# Altium integrated library microbuilder.IntLib: 530 symbols (part 4 of 7)
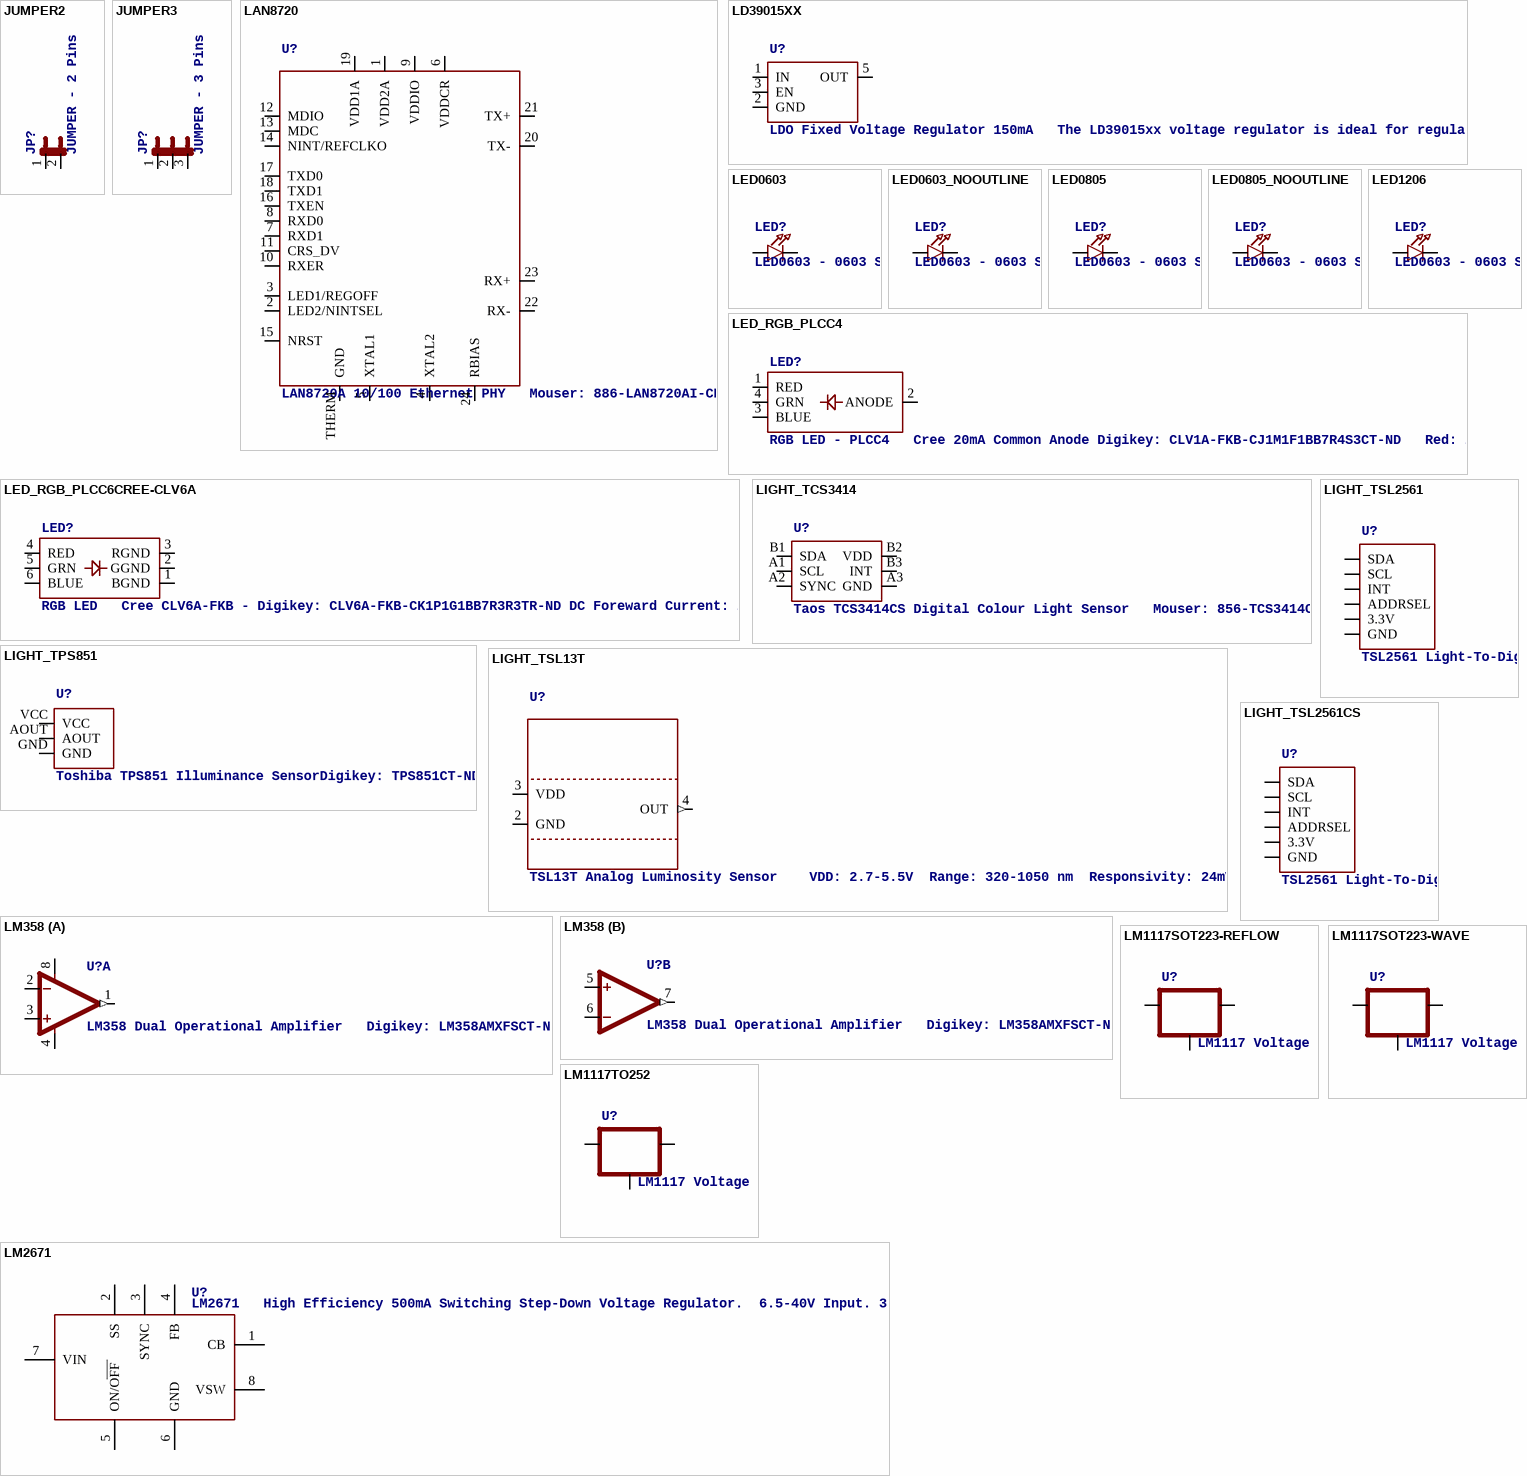
[diagram p55: symbols JUMPER2 to LM2671]

## LED0603_NOOUTLINE
designator LED?, comment LED0603 - 0603 Surface Mount Package    2mA: Green LED - Low Power (3.9mcd, 2ma, 1.7Vf) - Digikey: 475-2709-2-ND  Orange LED - Low Power (9.8mcd, 2ma, 1.8Vf) - Digikey: 475-1194-2-ND  Red LED - Low Power (5mcd, 2ma, 1.8Vf) - Digikey: 475-1195-2-ND  Yellow LED - Low Power (7mcd, 2ma, 1.8Vf) - Digikey: 475-1196-2-ND       5mA: Blue LED - Low Power (17mcd, 5ma, 2.9Vf) - Digikey: LNJ937W8CRACT-ND    0805 - 0805 Surface Mount Package    2mA: Red LED (8.8mcd, 2mA, 1.8Vf, Clear) - Low Power [Digikey: 475-2510-1-ND]  Green LED (5mcd, 2mA, 1.8Vf, Clear) - Low Power [Digikey: 475-2730-1-ND]  Yellow LED (11.3mcd, 2mA, 1.8Vf, Clear) - Low Power [Digikey: 475-2555-1-ND]       20mA: Red LED (104mcd, 20mA, Diffused) - LS R976 [Digikey: 475-1278-6-ND]  Red LED (12mcd, 20mA, 2.0Vf, Clear) - APT2012EC [Digikey: 754-1128-1-ND]  Green LED (15mcd, 20mA, 2.2Vf, Clear) - APT2012GC [Digikey: 754-1131-1-ND]  Orange LED (160mcd, 20mA, 2.1Vf, Clear) - APT2012SECK [Digikey: 754-1130-1-ND]     1206 - 1206 Surface Mount Package  Green LED (26mcd, 20mA, Diffused) - LG N971  [Digikey: 475-1407-6-ND]  Red LED (15mcd, 20mA, Diffused) - LH N974 [Digikey: 475-1416-6-ND]
footprint CHIPLED_0603_NOOUTLINE
pins: A, C

## LED0805
designator LED?, comment LED0603 - 0603 Surface Mount Package    2mA: Green LED - Low Power (3.9mcd, 2ma, 1.7Vf) - Digikey: 475-2709-2-ND  Orange LED - Low Power (9.8mcd, 2ma, 1.8Vf) - Digikey: 475-1194-2-ND  Red LED - Low Power (5mcd, 2ma, 1.8Vf) - Digikey: 475-1195-2-ND  Yellow LED - Low Power (7mcd, 2ma, 1.8Vf) - Digikey: 475-1196-2-ND       5mA: Blue LED - Low Power (17mcd, 5ma, 2.9Vf) - Digikey: LNJ937W8CRACT-ND    0805 - 0805 Surface Mount Package    2mA: Red LED (8.8mcd, 2mA, 1.8Vf, Clear) - Low Power [Digikey: 475-2510-1-ND]  Green LED (5mcd, 2mA, 1.8Vf, Clear) - Low Power [Digikey: 475-2730-1-ND]  Yellow LED (11.3mcd, 2mA, 1.8Vf, Clear) - Low Power [Digikey: 475-2555-1-ND]       20mA: Red LED (104mcd, 20mA, Diffused) - LS R976 [Digikey: 475-1278-6-ND]  Red LED (12mcd, 20mA, 2.0Vf, Clear) - APT2012EC [Digikey: 754-1128-1-ND]  Green LED (15mcd, 20mA, 2.2Vf, Clear) - APT2012GC [Digikey: 754-1131-1-ND]  Orange LED (160mcd, 20mA, 2.1Vf, Clear) - APT2012SECK [Digikey: 754-1130-1-ND]     1206 - 1206 Surface Mount Package  Green LED (26mcd, 20mA, Diffused) - LG N971  [Digikey: 475-1407-6-ND]  Red LED (15mcd, 20mA, Diffused) - LH N974 [Digikey: 475-1416-6-ND]
footprint CHIPLED_0805
pins: A, C

## LED0805_NOOUTLINE
designator LED?, comment LED0603 - 0603 Surface Mount Package    2mA: Green LED - Low Power (3.9mcd, 2ma, 1.7Vf) - Digikey: 475-2709-2-ND  Orange LED - Low Power (9.8mcd, 2ma, 1.8Vf) - Digikey: 475-1194-2-ND  Red LED - Low Power (5mcd, 2ma, 1.8Vf) - Digikey: 475-1195-2-ND  Yellow LED - Low Power (7mcd, 2ma, 1.8Vf) - Digikey: 475-1196-2-ND       5mA: Blue LED - Low Power (17mcd, 5ma, 2.9Vf) - Digikey: LNJ937W8CRACT-ND    0805 - 0805 Surface Mount Package    2mA: Red LED (8.8mcd, 2mA, 1.8Vf, Clear) - Low Power [Digikey: 475-2510-1-ND]  Green LED (5mcd, 2mA, 1.8Vf, Clear) - Low Power [Digikey: 475-2730-1-ND]  Yellow LED (11.3mcd, 2mA, 1.8Vf, Clear) - Low Power [Digikey: 475-2555-1-ND]       20mA: Red LED (104mcd, 20mA, Diffused) - LS R976 [Digikey: 475-1278-6-ND]  Red LED (12mcd, 20mA, 2.0Vf, Clear) - APT2012EC [Digikey: 754-1128-1-ND]  Green LED (15mcd, 20mA, 2.2Vf, Clear) - APT2012GC [Digikey: 754-1131-1-ND]  Orange LED (160mcd, 20mA, 2.1Vf, Clear) - APT2012SECK [Digikey: 754-1130-1-ND]     1206 - 1206 Surface Mount Package  Green LED (26mcd, 20mA, Diffused) - LG N971  [Digikey: 475-1407-6-ND]  Red LED (15mcd, 20mA, Diffused) - LH N974 [Digikey: 475-1416-6-ND]
footprint CHIPLED_0805_NOOUTLINE
pins: A, C

## LED1206
designator LED?, comment LED0603 - 0603 Surface Mount Package    2mA: Green LED - Low Power (3.9mcd, 2ma, 1.7Vf) - Digikey: 475-2709-2-ND  Orange LED - Low Power (9.8mcd, 2ma, 1.8Vf) - Digikey: 475-1194-2-ND  Red LED - Low Power (5mcd, 2ma, 1.8Vf) - Digikey: 475-1195-2-ND  Yellow LED - Low Power (7mcd, 2ma, 1.8Vf) - Digikey: 475-1196-2-ND       5mA: Blue LED - Low Power (17mcd, 5ma, 2.9Vf) - Digikey: LNJ937W8CRACT-ND    0805 - 0805 Surface Mount Package    2mA: Red LED (8.8mcd, 2mA, 1.8Vf, Clear) - Low Power [Digikey: 475-2510-1-ND]  Green LED (5mcd, 2mA, 1.8Vf, Clear) - Low Power [Digikey: 475-2730-1-ND]  Yellow LED (11.3mcd, 2mA, 1.8Vf, Clear) - Low Power [Digikey: 475-2555-1-ND]       20mA: Red LED (104mcd, 20mA, Diffused) - LS R976 [Digikey: 475-1278-6-ND]  Red LED (12mcd, 20mA, 2.0Vf, Clear) - APT2012EC [Digikey: 754-1128-1-ND]  Green LED (15mcd, 20mA, 2.2Vf, Clear) - APT2012GC [Digikey: 754-1131-1-ND]  Orange LED (160mcd, 20mA, 2.1Vf, Clear) - APT2012SECK [Digikey: 754-1130-1-ND]     1206 - 1206 Surface Mount Package  Green LED (26mcd, 20mA, Diffused) - LG N971  [Digikey: 475-1407-6-ND]  Red LED (15mcd, 20mA, Diffused) - LH N974 [Digikey: 475-1416-6-ND]
footprint CHIPLED_1206
pins: A, C

## LED_RGB_PLCC4
designator LED?, comment RGB LED - PLCC4   Cree 20mA Common Anode Digikey: CLV1A-FKB-CJ1M1F1BB7R4S3CT-ND   Red: 2.6V Vf, 550mcd Green: 3.2V Vf, 850mcd Blue: 3.2V Vf, 320mcd
footprint RGBLED_PLCC4
pins: 1 RED, 2 ANODE (power), 3 BLUE, 4 GRN

## LED_RGB_PLCC6CREE-CLV6A
designator LED?, comment RGB LED   Cree CLV6A-FKB - Digikey: CLV6A-FKB-CK1P1G1BB7R3R3TR-ND DC Foreward Current: 20mA  Foreward Voltage: R = 2.0, G = 3.2, B = 3.2  Viewing Angle: 120°
footprint RGBLED_PLCC6
pins: 1 BGND (power), 2 GGND (power), 3 RGND (power), 4 RED, 5 GRN, 6 BLUE

## LIGHT_TCS3414
designator U?, comment Taos TCS3414CS Digital Colour Light Sensor   Mouser: 856-TCS3414CS
footprint TCS3414_CS6
pins: A1 SCL, A2 SYNC, A3 GND, B1 SDA, B2 VDD, B3 INT

## LIGHT_TPS851
designator U?, comment Toshiba TPS851 Illuminance SensorDigikey: TPS851CT-ND
footprint TPS851
pins: AOUT, GND, VCC

## LIGHT_TSL13T
designator U?, comment TSL13T Analog Luminosity Sensor    VDD: 2.7-5.5V  Range: 320-1050 nm  Responsivity: 24mV/(µW/cm²)    Mouser: 856-TSL13T
footprint TSL13T
pins: 2 GND (power), 3 VDD (power), 4 OUT (out)

## LIGHT_TSL2561
designator U?, comment TSL2561 Light-To-Digital Sensor   Mouser Part Numbers:  CS (obsolete): 856-TSL2561CS  DFN (cheapest): 856-TSL2561FN
footprint TSL2561_FN
pins: ADR ADDRSEL, CLK SCL, DATA SDA, INT, VDD 3.3V, VSS GND

## LIGHT_TSL2561CS
designator U?, comment TSL2561 Light-To-Digital Sensor   Mouser Part Numbers:  CS (obsolete): 856-TSL2561CS  DFN (cheapest): 856-TSL2561FN
footprint TSL2561_CS6
pins: ADDR ADDRSEL, GND, INT, SCL, SDA, VDD 3.3V

## LM358
designator U?, comment LM358 Dual Operational Amplifier   Digikey: LM358AMXFSCT-ND
footprint SOIC8_150MIL
part A pins: 1 OUT (out), 2 -IN, 3 +IN, 4 V- (power), 8 V+ (power)
part B pins: 5 +IN, 6 -IN, 7 OUT (out)

## LM1117SOT223-REFLOW
designator U?, comment LM1117 Voltage Regulator    LM1117 Adjustable Voltage regulator [Digikey: LM1117IMP-ADJDKR-ND] LM1117 3.3V Voltage regulator [AP1117E33GDIDKR-ND] LM1117 5.0V Voltage regulator [AP1117E50GDIDKR-ND]    SOT223-REFLOW - SOT223 package for solder paste/reflow ovens SOT223-WAVE - SOT223 package for hand-soldering (larger pads)   Note: For the fixed-voltage regulators, simply set the ADJ pin to GND.
footprint SOT223-R
pins: 1 ADJ, 2 OUT, 3 IN

## LM1117SOT223-WAVE
designator U?, comment LM1117 Voltage Regulator    LM1117 Adjustable Voltage regulator [Digikey: LM1117IMP-ADJDKR-ND] LM1117 3.3V Voltage regulator [AP1117E33GDIDKR-ND] LM1117 5.0V Voltage regulator [AP1117E50GDIDKR-ND]    SOT223-REFLOW - SOT223 package for solder paste/reflow ovens SOT223-WAVE - SOT223 package for hand-soldering (larger pads)   Note: For the fixed-voltage regulators, simply set the ADJ pin to GND.
footprint SOT223-W
pins: 1 ADJ, 2 OUT, 3 IN

## LM1117TO252
designator U?, comment LM1117 Voltage Regulator    LM1117 Adjustable Voltage regulator [Digikey: LM1117IMP-ADJDKR-ND] LM1117 3.3V Voltage regulator [AP1117E33GDIDKR-ND] LM1117 5.0V Voltage regulator [AP1117E50GDIDKR-ND]    SOT223-REFLOW - SOT223 package for solder paste/reflow ovens SOT223-WAVE - SOT223 package for hand-soldering (larger pads)   Note: For the fixed-voltage regulators, simply set the ADJ pin to GND.
footprint TO252
pins: 1 ADJ, 2 IN, 3 OUT

## LM2671
designator U?, comment LM2671   High Efficiency 500mA Switching Step-Down Voltage Regulator.  6.5-40V Input. 3.3V SOIC-8: Digikey LM2671M-3.3-ND
footprint SOIC8_150MIL
pins: 1 CB, 2 SS, 3 SYNC, 4 FB, 5 ON/OFF, 6 GND, 7 VIN, 8 VSW

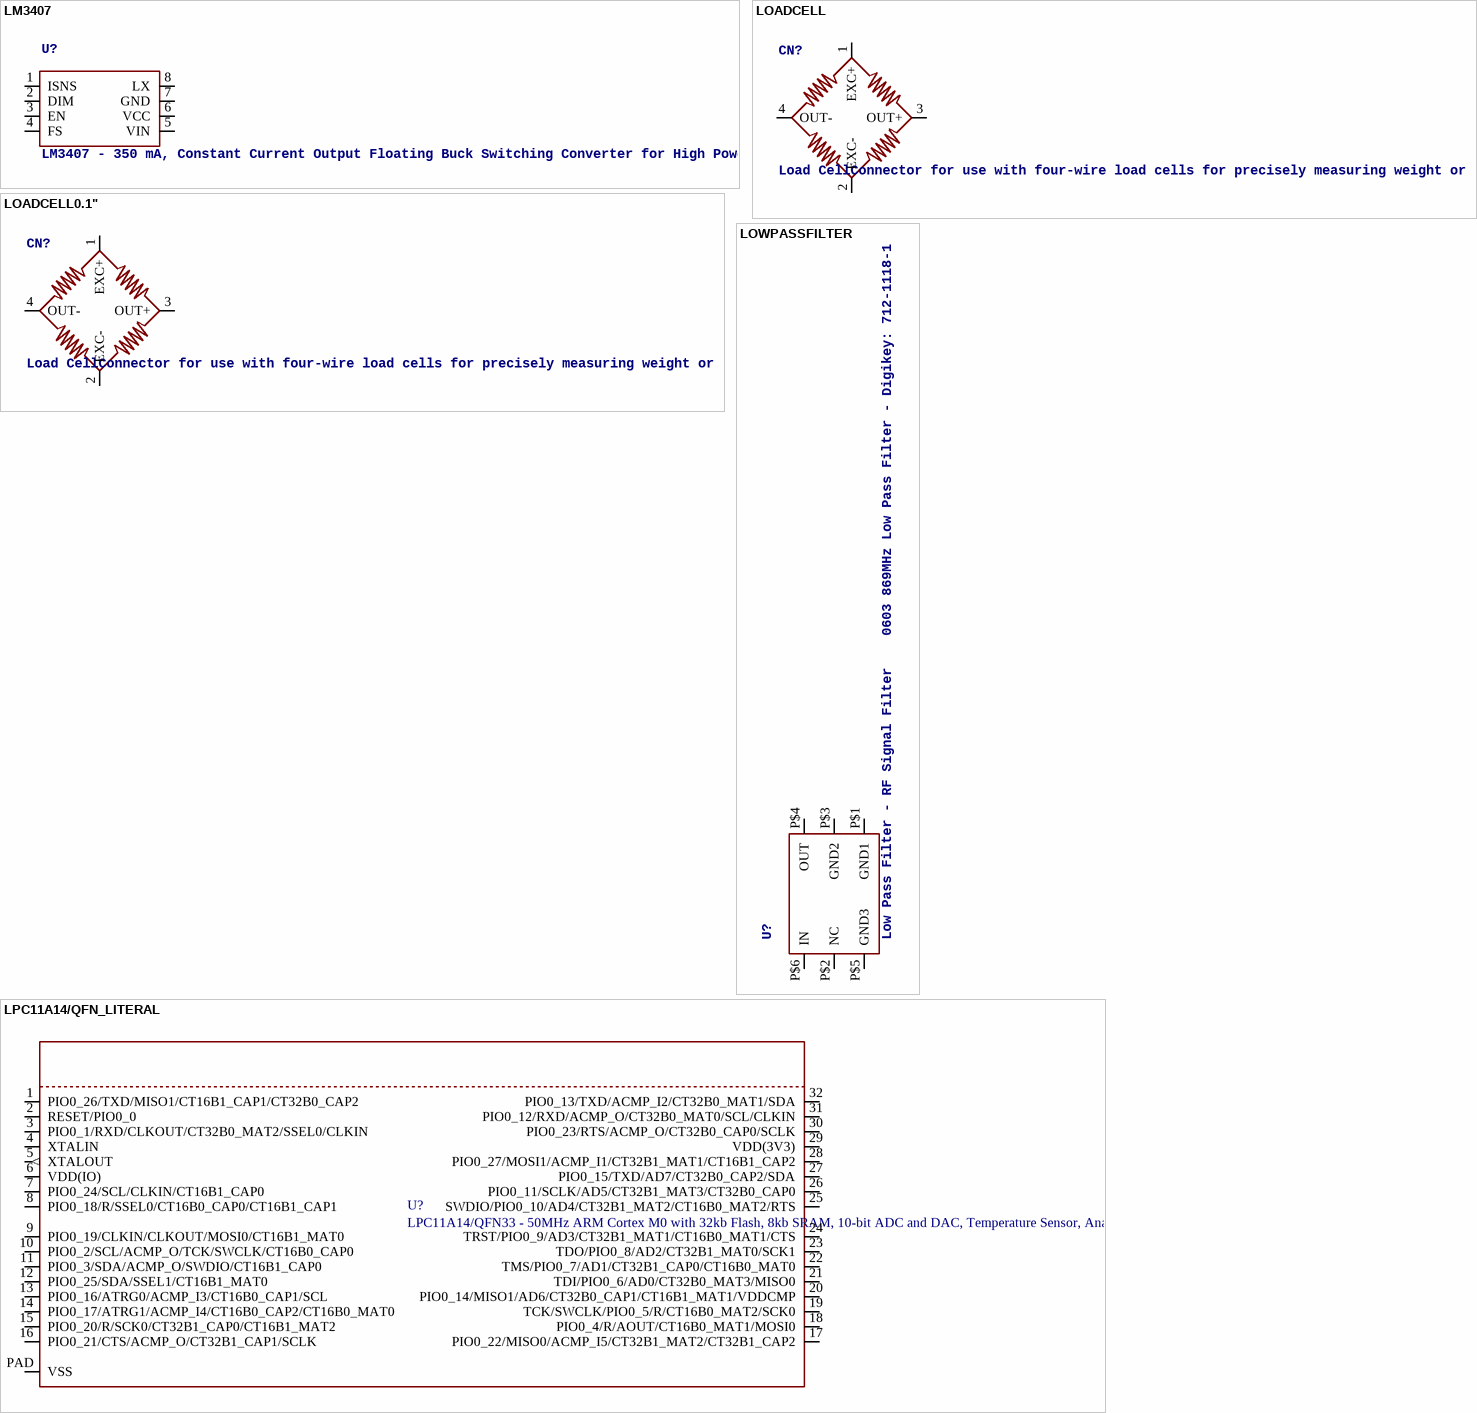
[diagram p27: symbols LM3407 to LPC11A14/QFN_LITERAL]

## LM3407
designator U?, comment LM3407 - 350 mA, Constant Current Output Floating Buck Switching Converter for High Power LEDs
footprint MSOP8_0.65MM
pins: 1 ISNS, 2 DIM, 3 EN, 4 FS, 5 VIN, 6 VCC, 7 GND, 8 LX

## LOADCELL
designator CN?, comment Load CellConnector for use with four-wire load cells for precisely measuring weight or pressure
footprint JSTPH4
pins: 1 EXC+, 2 EXC-, 3 OUT+, 4 OUT-

## LOADCELL0.1"
designator CN?, comment Load CellConnector for use with four-wire load cells for precisely measuring weight or pressure
footprint 1X04_OVAL
pins: 1 EXC+, 2 EXC-, 3 OUT+, 4 OUT-

## LOWPASSFILTER
designator U?, comment Low Pass Filter - RF Signal Filter    0603 869MHz Low Pass Filter - Digikey: 712-1118-1-ND
footprint LOWPASSFILTER0603
pins: P$1 GND1, P$2 NC, P$3 GND2, P$4 OUT, P$5 GND3, P$6 IN

## LPC11A14/QFN_LITERAL
designator U?, comment LPC11A14/QFN33 - 50MHz ARM Cortex M0 with 32kb Flash, 8kb SRAM, 10-bit ADC and DAC, Temperature Sensor, Analog Comparator, and 4kb EEPROM    Temp Range: -40°C - 85°C VDD: 2.6-3.6V
footprint HVQFN32
pins: 1 PIO0_26/TXD/MISO1/CT16B1_CAP1/CT32B0_CAP2, 2 RESET/PIO0_0, 3 PIO0_1/RXD/CLKOUT/CT32B0_MAT2/SSEL0/CLKIN, 4 XTALIN, 5 XTALOUT (out), 6 VDD(IO) (oe), 7 PIO0_24/SCL/CLKIN/CT16B1_CAP0, 8 PIO0_18/R/SSEL0/CT16B0_CAP0/CT16B1_CAP1, 9 PIO0_19/CLKIN/CLKOUT/MOSI0/CT16B1_MAT0, 10 PIO0_2/SCL/ACMP_O/TCK/SWCLK/CT16B0_CAP0, 11 PIO0_3/SDA/ACMP_O/SWDIO/CT16B1_CAP0, 12 PIO0_25/SDA/SSEL1/CT16B1_MAT0, 13 PIO0_16/ATRG0/ACMP_I3/CT16B0_CAP1/SCL, 14 PIO0_17/ATRG1/ACMP_I4/CT16B0_CAP2/CT16B0_MAT0, 15 PIO0_20/R/SCK0/CT32B1_CAP0/CT16B1_MAT2, 16 PIO0_21/CTS/ACMP_O/CT32B1_CAP1/SCLK, 17 PIO0_22/MISO0/ACMP_I5/CT32B1_MAT2/CT32B1_CAP2, 18 PIO0_4/R/AOUT/CT16B0_MAT1/MOSI0, 19 TCK/SWCLK/PIO0_5/R/CT16B0_MAT2/SCK0, 20 PIO0_14/MISO1/AD6/CT32B0_CAP1/CT16B1_MAT1/VDDCMP, 21 TDI/PIO0_6/AD0/CT32B0_MAT3/MISO0, 22 TMS/PIO0_7/AD1/CT32B1_CAP0/CT16B0_MAT0, 23 TDO/PIO0_8/AD2/CT32B1_MAT0/SCK1, 24 TRST/PIO0_9/AD3/CT32B1_MAT1/CT16B0_MAT1/CTS, 25 SWDIO/PIO0_10/AD4/CT32B1_MAT2/CT16B0_MAT2/RTS, 26 PIO0_11/SCLK/AD5/CT32B1_MAT3/CT32B0_CAP0, 27 PIO0_15/TXD/AD7/CT32B0_CAP2/SDA, 28 PIO0_27/MOSI1/ACMP_I1/CT32B1_MAT1/CT16B1_CAP2, 29 VDD(3V3) (oe), 30 PIO0_23/RTS/ACMP_O/CT32B0_CAP0/SCLK, 31 PIO0_12/RXD/ACMP_O/CT32B0_MAT0/SCL/CLKIN, 32 PIO0_13/TXD/ACMP_I2/CT32B0_MAT1/SDA, PAD VSS (oe)

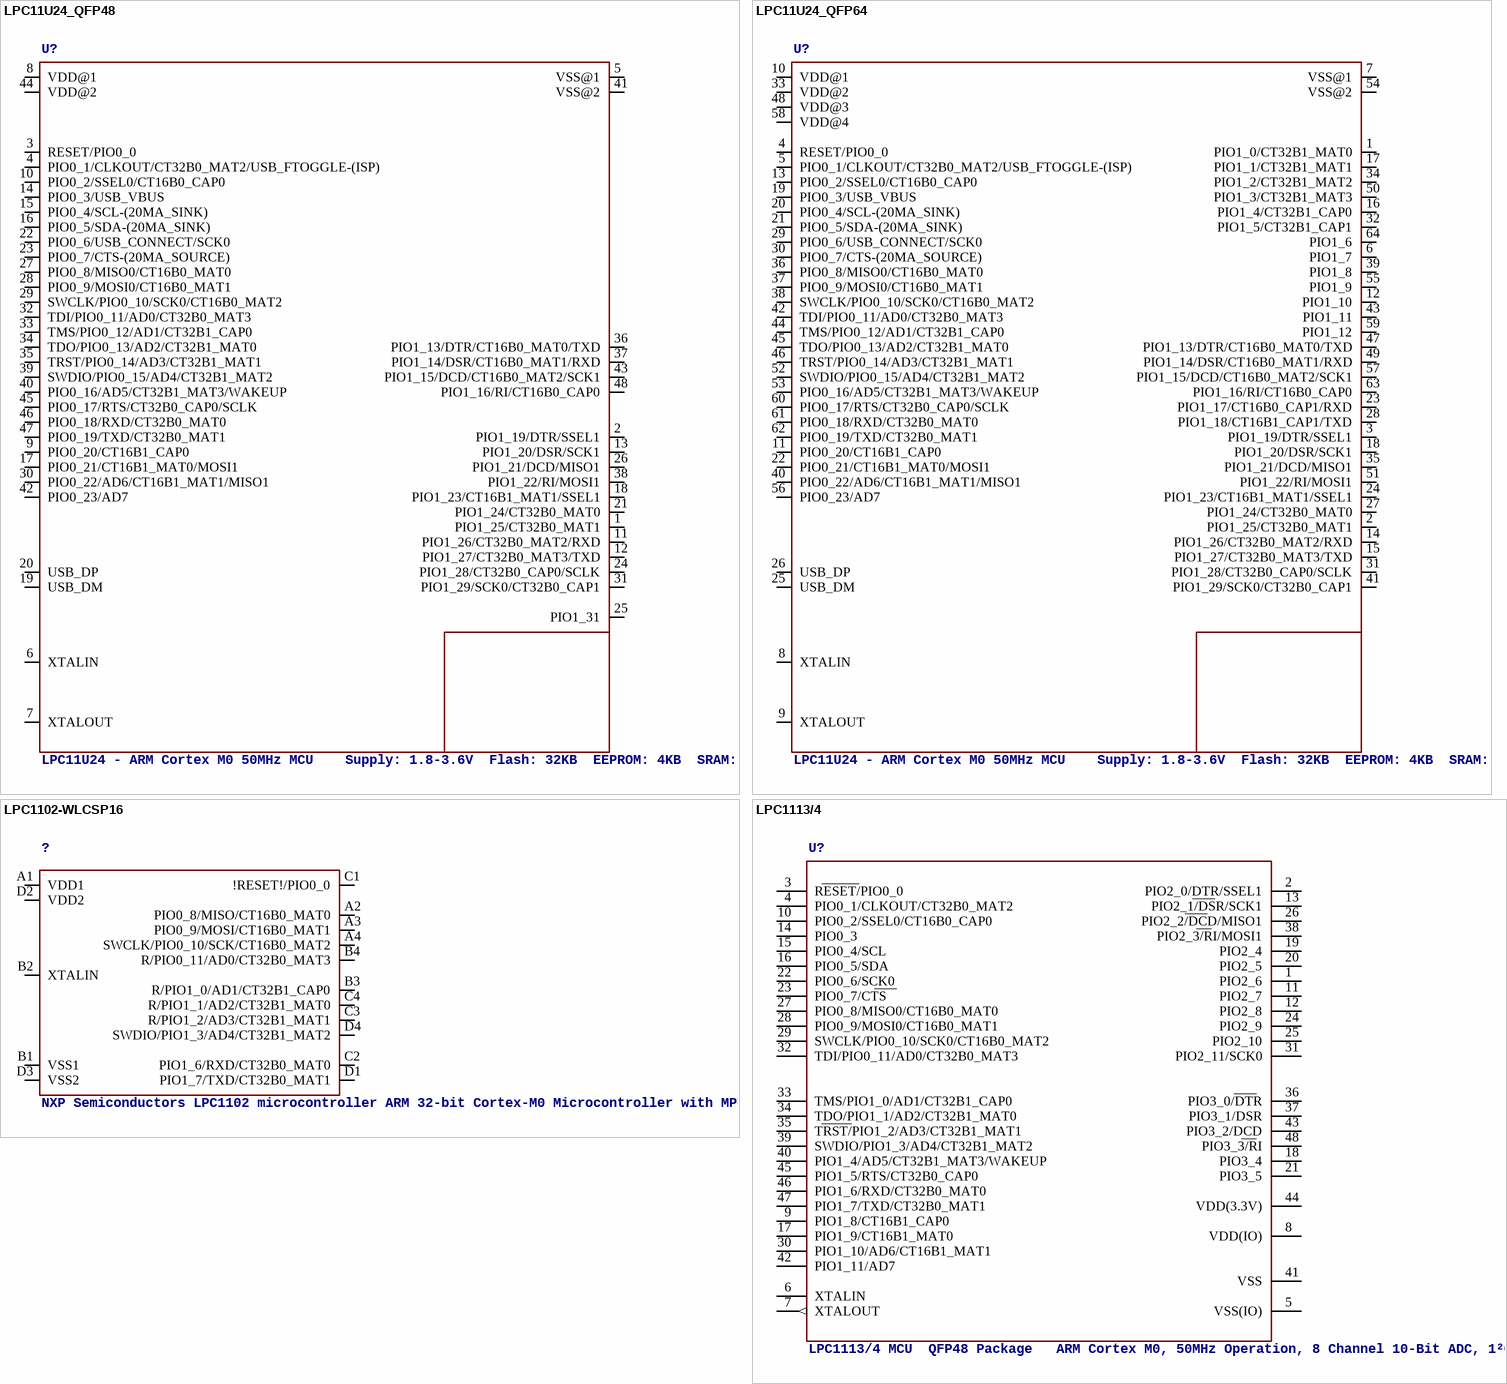
[diagram p28: symbols LPC11U24_QFP48 to LPC1113/4]

## LPC11U24_QFP48
designator U?, comment LPC11U24 - ARM Cortex M0 50MHz MCU    Supply: 1.8-3.6V  Flash: 32KB  EEPROM: 4KB  SRAM: 8KB + 2KB USB  Temp: -40°C - 85°C
footprint LQFP48
pins: 1 PIO1_25/CT32B0_MAT1, 2 PIO1_19/DTR/SSEL1, 3 RESET/PIO0_0, 4 PIO0_1/CLKOUT/CT32B0_MAT2/USB_FTOGGLE-(ISP), 5 VSS@1, 6 XTALIN, 7 XTALOUT, 8 VDD@1, 9 PIO0_20/CT16B1_CAP0, 10 PIO0_2/SSEL0/CT16B0_CAP0, 11 PIO1_26/CT32B0_MAT2/RXD, 12 PIO1_27/CT32B0_MAT3/TXD, 13 PIO1_20/DSR/SCK1, 14 PIO0_3/USB_VBUS, 15 PIO0_4/SCL-(20MA_SINK), 16 PIO0_5/SDA-(20MA_SINK), 17 PIO0_21/CT16B1_MAT0/MOSI1, 18 PIO1_23/CT16B1_MAT1/SSEL1, 19 USB_DM, 20 USB_DP, 21 PIO1_24/CT32B0_MAT0, 22 PIO0_6/USB_CONNECT/SCK0, 23 PIO0_7/CTS-(20MA_SOURCE), 24 PIO1_28/CT32B0_CAP0/SCLK, 25 PIO1_31, 26 PIO1_21/DCD/MISO1, 27 PIO0_8/MISO0/CT16B0_MAT0, 28 PIO0_9/MOSI0/CT16B0_MAT1, 29 SWCLK/PIO0_10/SCK0/CT16B0_MAT2, 30 PIO0_22/AD6/CT16B1_MAT1/MISO1, 31 PIO1_29/SCK0/CT32B0_CAP1, 32 TDI/PIO0_11/AD0/CT32B0_MAT3, 33 TMS/PIO0_12/AD1/CT32B1_CAP0, 34 TDO/PIO0_13/AD2/CT32B1_MAT0, 35 TRST/PIO0_14/AD3/CT32B1_MAT1, 36 PIO1_13/DTR/CT16B0_MAT0/TXD, 37 PIO1_14/DSR/CT16B0_MAT1/RXD, 38 PIO1_22/RI/MOSI1, 39 SWDIO/PIO0_15/AD4/CT32B1_MAT2, 40 PIO0_16/AD5/CT32B1_MAT3/WAKEUP, 41 VSS@2, 42 PIO0_23/AD7, 43 PIO1_15/DCD/CT16B0_MAT2/SCK1, 44 VDD@2, 45 PIO0_17/RTS/CT32B0_CAP0/SCLK, 46 PIO0_18/RXD/CT32B0_MAT0, 47 PIO0_19/TXD/CT32B0_MAT1, 48 PIO1_16/RI/CT16B0_CAP0

## LPC11U24_QFP64
designator U?, comment LPC11U24 - ARM Cortex M0 50MHz MCU    Supply: 1.8-3.6V  Flash: 32KB  EEPROM: 4KB  SRAM: 8KB + 2KB USB  Temp: -40°C - 85°C
footprint LQFP64
pins: 1 PIO1_0/CT32B1_MAT0, 2 PIO1_25/CT32B0_MAT1, 3 PIO1_19/DTR/SSEL1, 4 RESET/PIO0_0, 5 PIO0_1/CLKOUT/CT32B0_MAT2/USB_FTOGGLE-(ISP), 6 PIO1_7, 7 VSS@1, 8 XTALIN, 9 XTALOUT, 10 VDD@1, 11 PIO0_20/CT16B1_CAP0, 12 PIO1_10, 13 PIO0_2/SSEL0/CT16B0_CAP0, 14 PIO1_26/CT32B0_MAT2/RXD, 15 PIO1_27/CT32B0_MAT3/TXD, 16 PIO1_4/CT32B1_CAP0, 17 PIO1_1/CT32B1_MAT1, 18 PIO1_20/DSR/SCK1, 19 PIO0_3/USB_VBUS, 20 PIO0_4/SCL-(20MA_SINK), 21 PIO0_5/SDA-(20MA_SINK), 22 PIO0_21/CT16B1_MAT0/MOSI1, 23 PIO1_17/CT16B0_CAP1/RXD, 24 PIO1_23/CT16B1_MAT1/SSEL1, 25 USB_DM, 26 USB_DP, 27 PIO1_24/CT32B0_MAT0, 28 PIO1_18/CT16B1_CAP1/TXD, 29 PIO0_6/USB_CONNECT/SCK0, 30 PIO0_7/CTS-(20MA_SOURCE), 31 PIO1_28/CT32B0_CAP0/SCLK, 32 PIO1_5/CT32B1_CAP1, 33 VDD@2, 34 PIO1_2/CT32B1_MAT2, 35 PIO1_21/DCD/MISO1, 36 PIO0_8/MISO0/CT16B0_MAT0, 37 PIO0_9/MOSI0/CT16B0_MAT1, 38 SWCLK/PIO0_10/SCK0/CT16B0_MAT2, 39 PIO1_8, 40 PIO0_22/AD6/CT16B1_MAT1/MISO1, 41 PIO1_29/SCK0/CT32B0_CAP1, 42 TDI/PIO0_11/AD0/CT32B0_MAT3, 43 PIO1_11, 44 TMS/PIO0_12/AD1/CT32B1_CAP0, 45 TDO/PIO0_13/AD2/CT32B1_MAT0, 46 TRST/PIO0_14/AD3/CT32B1_MAT1, 47 PIO1_13/DTR/CT16B0_MAT0/TXD, 48 VDD@3, 49 PIO1_14/DSR/CT16B0_MAT1/RXD, 50 PIO1_3/CT32B1_MAT3, 51 PIO1_22/RI/MOSI1, 52 SWDIO/PIO0_15/AD4/CT32B1_MAT2, 53 PIO0_16/AD5/CT32B1_MAT3/WAKEUP, 54 VSS@2, 55 PIO1_9, 56 PIO0_23/AD7, 57 PIO1_15/DCD/CT16B0_MAT2/SCK1, 58 VDD@4, 59 PIO1_12, 60 PIO0_17/RTS/CT32B0_CAP0/SCLK, 61 PIO0_18/RXD/CT32B0_MAT0, 62 PIO0_19/TXD/CT32B0_MAT1, 63 PIO1_16/RI/CT16B0_CAP0, 64 PIO1_6

## LPC1102-WLCSP16
designator ?, comment NXP Semiconductors LPC1102 microcontroller ARM 32-bit Cortex-M0 Microcontroller with MPU  CPU clock up to 50MHz  32KByte on-chip Flash ROM with In-System Programming (ISP) and In-Application Programming (IAP) via On-Chip Bootloader  8KByte SRAM  Nested Vectored Interrupt Controller  SPI controller  UART with full Modem Interface and RS485 Support  4 Timers with 4 capture channels and 13 output channels  Watchdog (WDT)  Sytem tick timer  10-bit ADC with 5 channels  Power Management Unit (PMU)  Brownout detection  12MHz internal RC oscillator  Serial Wire Debug/Trace port
footprint WLCSP16
pins: A1 VDD1 (power), A2 PIO0_8/MISO/CT16B0_MAT0, A3 PIO0_9/MOSI/CT16B0_MAT1, A4 SWCLK/PIO0_10/SCK/CT16B0_MAT2, B1 VSS1 (power), B2 XTALIN, B3 R/PIO1_0/AD1/CT32B1_CAP0, B4 R/PIO0_11/AD0/CT32B0_MAT3, C1 !RESET!/PIO0_0, C2 PIO1_6/RXD/CT32B0_MAT0, C3 R/PIO1_2/AD3/CT32B1_MAT1, C4 R/PIO1_1/AD2/CT32B1_MAT0, D1 PIO1_7/TXD/CT32B0_MAT1, D2 VDD2 (power), D3 VSS2 (power), D4 SWDIO/PIO1_3/AD4/CT32B1_MAT2

## LPC1113/4
designator U?, comment LPC1113/4 MCU  QFP48 Package   ARM Cortex M0, 50MHz Operation, 8 Channel 10-Bit ADC, 1²C, 2xSPI, UART, 2x16 Bit and 2x32 Bit Timers, Internal 12MHz Oscillator, 1.8-3.6V operation.      Model	Flash	SRAM	Part N°:	Digikey	Mouser	   LPC1113	24KB	8KB	LPC1113FBD48/301	TBD	TBD	   LPC1114	32KB	8KB	LPC1114FBD48/301	568-4950-ND	771-LPC1114FBD483011
MANF: NXP; MANF#: LPC1114FBD48/301,1; DIGIKEY#: 568-4950-ND
footprint LQFP48
pins: 1 PIO2_6, 2 PIO2_0/DTR/SSEL1, 3 RESET/PIO0_0, 4 PIO0_1/CLKOUT/CT32B0_MAT2, 5 VSS(IO) (power), 6 XTALIN, 7 XTALOUT (out), 8 VDD(IO) (power), 9 PIO1_8/CT16B1_CAP0, 10 PIO0_2/SSEL0/CT16B0_CAP0, 11 PIO2_7, 12 PIO2_8, 13 PIO2_1/DSR/SCK1, 14 PIO0_3, 15 PIO0_4/SCL, 16 PIO0_5/SDA, 17 PIO1_9/CT16B1_MAT0, 18 PIO3_4, 19 PIO2_4, 20 PIO2_5, 21 PIO3_5, 22 PIO0_6/SCK0, 23 PIO0_7/CTS, 24 PIO2_9, 25 PIO2_10, 26 PIO2_2/DCD/MISO1, 27 PIO0_8/MISO0/CT16B0_MAT0, 28 PIO0_9/MOSI0/CT16B0_MAT1, 29 SWCLK/PIO0_10/SCK0/CT16B0_MAT2, 30 PIO1_10/AD6/CT16B1_MAT1, 31 PIO2_11/SCK0, 32 TDI/PIO0_11/AD0/CT32B0_MAT3, 33 TMS/PIO1_0/AD1/CT32B1_CAP0, 34 TDO/PIO1_1/AD2/CT32B1_MAT0, 35 TRST/PIO1_2/AD3/CT32B1_MAT1, 36 PIO3_0/DTR, 37 PIO3_1/DSR, 38 PIO2_3/RI/MOSI1, 39 SWDIO/PIO1_3/AD4/CT32B1_MAT2, 40 PIO1_4/AD5/CT32B1_MAT3/WAKEUP, 41 VSS (power), 42 PIO1_11/AD7, 43 PIO3_2/DCD, 44 VDD(3.3V) (power), 45 PIO1_5/RTS/CT32B0_CAP0, 46 PIO1_6/RXD/CT32B0_MAT0, 47 PIO1_7/TXD/CT32B0_MAT1, 48 PIO3_3/RI

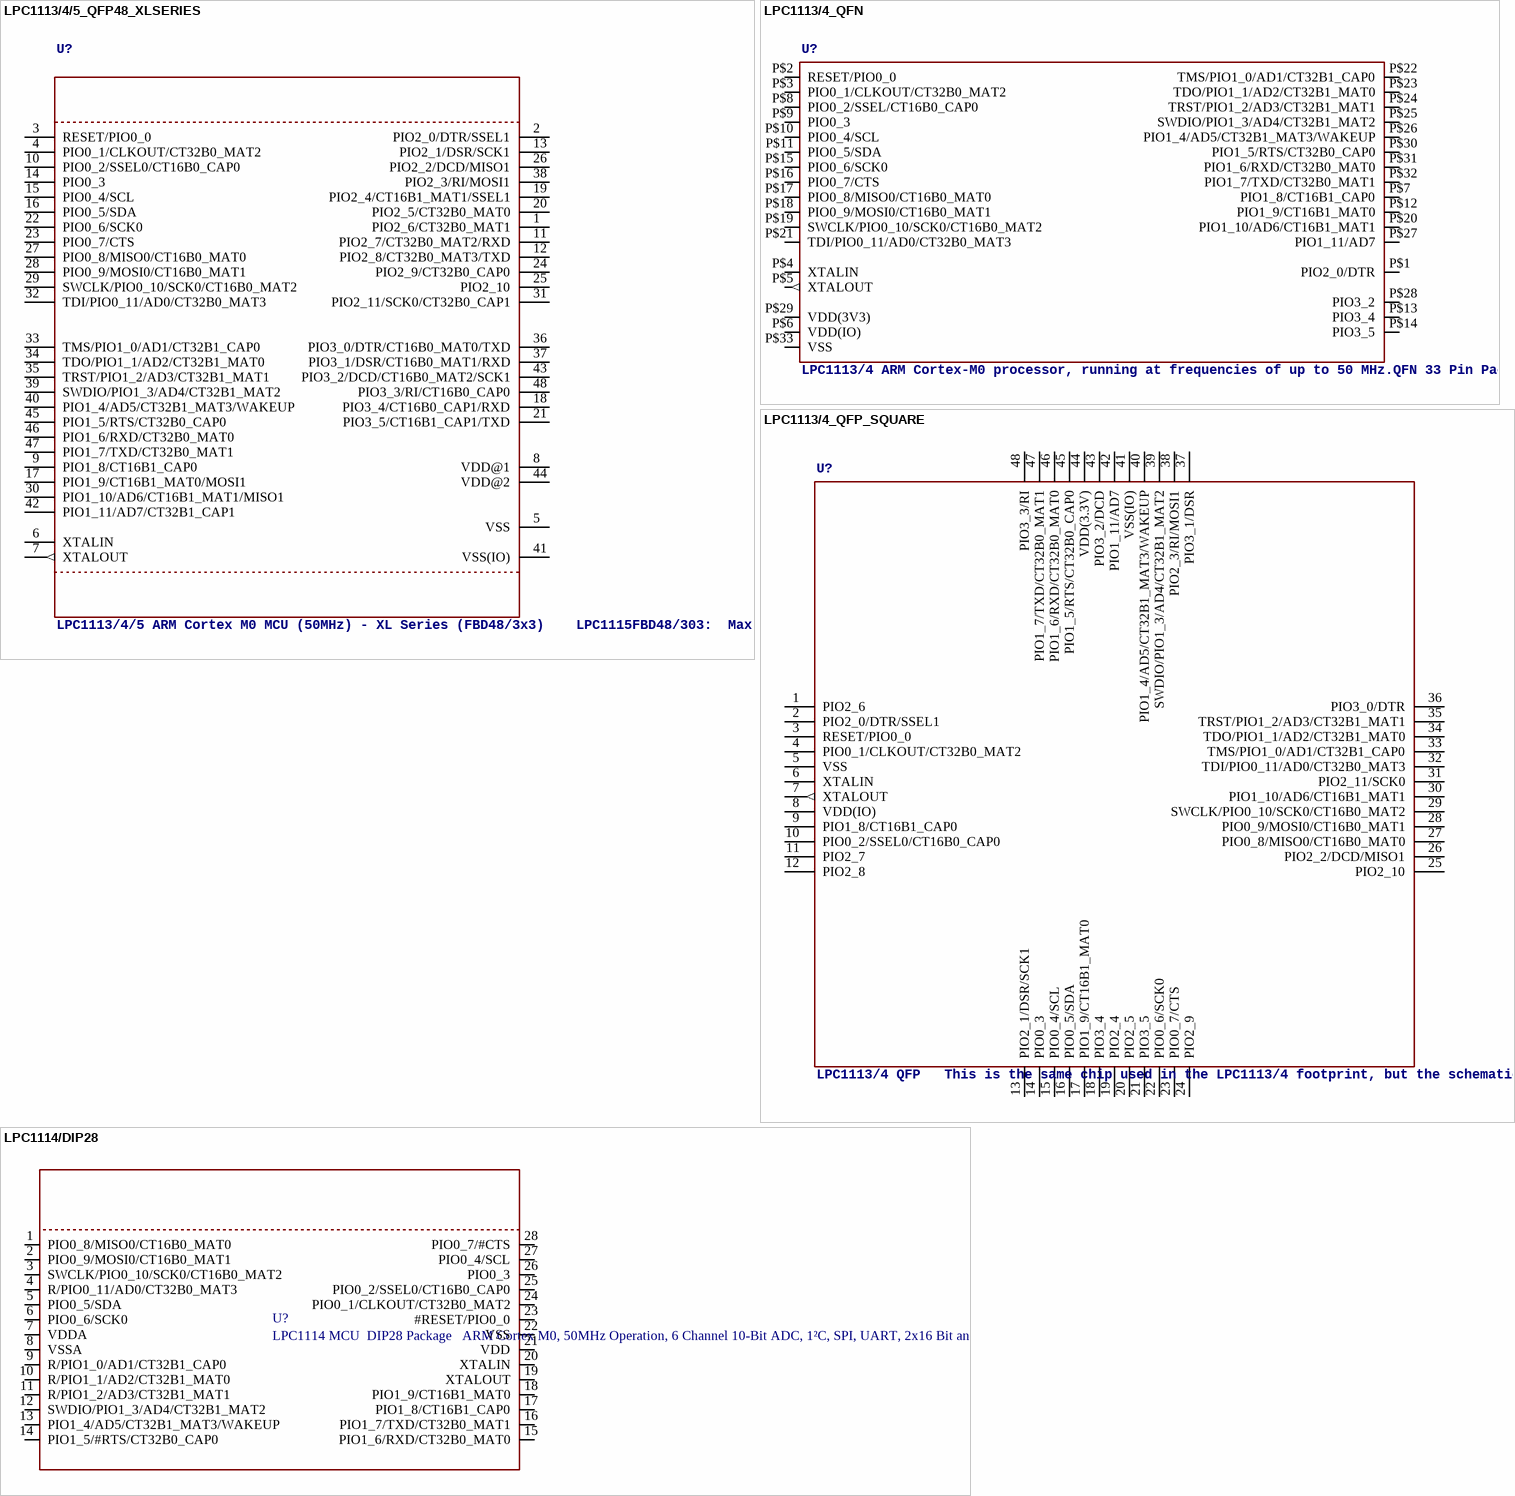
[diagram p29: symbols LPC1113/4/5_QFP48_XLSERIES to LPC1114/DIP28]

## LPC1113/4/5_QFP48_XLSERIES
designator U?, comment LPC1113/4/5 ARM Cortex M0 MCU (50MHz) - XL Series (FBD48/3x3)    LPC1115FBD48/303:  Max Frequency: 50MHz  Flash: 64kB  SRAM: 8kB  ADC: 10-bit
footprint LQFP48
pins: 1 PIO2_6/CT32B0_MAT1, 2 PIO2_0/DTR/SSEL1, 3 RESET/PIO0_0, 4 PIO0_1/CLKOUT/CT32B0_MAT2, 5 VSS (power), 6 XTALIN, 7 XTALOUT (out), 8 VDD@1 (power), 9 PIO1_8/CT16B1_CAP0, 10 PIO0_2/SSEL0/CT16B0_CAP0, 11 PIO2_7/CT32B0_MAT2/RXD, 12 PIO2_8/CT32B0_MAT3/TXD, 13 PIO2_1/DSR/SCK1, 14 PIO0_3, 15 PIO0_4/SCL, 16 PIO0_5/SDA, 17 PIO1_9/CT16B1_MAT0/MOSI1, 18 PIO3_4/CT16B0_CAP1/RXD, 19 PIO2_4/CT16B1_MAT1/SSEL1, 20 PIO2_5/CT32B0_MAT0, 21 PIO3_5/CT16B1_CAP1/TXD, 22 PIO0_6/SCK0, 23 PIO0_7/CTS, 24 PIO2_9/CT32B0_CAP0, 25 PIO2_10, 26 PIO2_2/DCD/MISO1, 27 PIO0_8/MISO0/CT16B0_MAT0, 28 PIO0_9/MOSI0/CT16B0_MAT1, 29 SWCLK/PIO0_10/SCK0/CT16B0_MAT2, 30 PIO1_10/AD6/CT16B1_MAT1/MISO1, 31 PIO2_11/SCK0/CT32B0_CAP1, 32 TDI/PIO0_11/AD0/CT32B0_MAT3, 33 TMS/PIO1_0/AD1/CT32B1_CAP0, 34 TDO/PIO1_1/AD2/CT32B1_MAT0, 35 TRST/PIO1_2/AD3/CT32B1_MAT1, 36 PIO3_0/DTR/CT16B0_MAT0/TXD, 37 PIO3_1/DSR/CT16B0_MAT1/RXD, 38 PIO2_3/RI/MOSI1, 39 SWDIO/PIO1_3/AD4/CT32B1_MAT2, 40 PIO1_4/AD5/CT32B1_MAT3/WAKEUP, 41 VSS(IO) (power), 42 PIO1_11/AD7/CT32B1_CAP1, 43 PIO3_2/DCD/CT16B0_MAT2/SCK1, 44 VDD@2 (power), 45 PIO1_5/RTS/CT32B0_CAP0, 46 PIO1_6/RXD/CT32B0_MAT0, 47 PIO1_7/TXD/CT32B0_MAT1, 48 PIO3_3/RI/CT16B0_CAP0

## LPC1113/4_QFN
designator U?, comment LPC1113/4 ARM Cortex-M0 processor, running at frequencies of up to 50 MHz.QFN 33 Pin Package
MANF: NXP; MANF#: LPC1114FHN33/301,5; DIGIKEY#: 568-4948-ND
footprint HVQFN33-7X7
pins: P$1 PIO2_0/DTR, P$2 RESET/PIO0_0, P$3 PIO0_1/CLKOUT/CT32B0_MAT2, P$4 XTALIN, P$5 XTALOUT (out), P$6 VDD(IO) (power), P$7 PIO1_8/CT16B1_CAP0, P$8 PIO0_2/SSEL/CT16B0_CAP0, P$9 PIO0_3, P$10 PIO0_4/SCL, P$11 PIO0_5/SDA, P$12 PIO1_9/CT16B1_MAT0, P$13 PIO3_4, P$14 PIO3_5, P$15 PIO0_6/SCK0, P$16 PIO0_7/CTS, P$17 PIO0_8/MISO0/CT16B0_MAT0, P$18 PIO0_9/MOSI0/CT16B0_MAT1, P$19 SWCLK/PIO0_10/SCK0/CT16B0_MAT2, P$20 PIO1_10/AD6/CT16B1_MAT1, P$21 TDI/PIO0_11/AD0/CT32B0_MAT3, P$22 TMS/PIO1_0/AD1/CT32B1_CAP0, P$23 TDO/PIO1_1/AD2/CT32B1_MAT0, P$24 TRST/PIO1_2/AD3/CT32B1_MAT1, P$25 SWDIO/PIO1_3/AD4/CT32B1_MAT2, P$26 PIO1_4/AD5/CT32B1_MAT3/WAKEUP, P$27 PIO1_11/AD7, P$28 PIO3_2, P$29 VDD(3V3) (power), P$30 PIO1_5/RTS/CT32B0_CAP0, P$31 PIO1_6/RXD/CT32B0_MAT0, P$32 PIO1_7/TXD/CT32B0_MAT1, P$33 VSS (power)

## LPC1113/4_QFP_SQUARE
designator U?, comment LPC1113/4 QFP   This is the same chip used in the LPC1113/4 footprint, but the schematic symbol is a square corresponding to the same pinout used on the LQFP48 IC.  This alternate layout can be useful when designing space-constrained devices, and to minimise the number of vias on a board.
footprint LQFP48
pins: 1 PIO2_6, 2 PIO2_0/DTR/SSEL1, 3 RESET/PIO0_0, 4 PIO0_1/CLKOUT/CT32B0_MAT2, 5 VSS (power), 6 XTALIN, 7 XTALOUT (out), 8 VDD(IO) (power), 9 PIO1_8/CT16B1_CAP0, 10 PIO0_2/SSEL0/CT16B0_CAP0, 11 PIO2_7, 12 PIO2_8, 13 PIO2_1/DSR/SCK1, 14 PIO0_3, 15 PIO0_4/SCL, 16 PIO0_5/SDA, 17 PIO1_9/CT16B1_MAT0, 18 PIO3_4, 19 PIO2_4, 20 PIO2_5, 21 PIO3_5, 22 PIO0_6/SCK0, 23 PIO0_7/CTS, 24 PIO2_9, 25 PIO2_10, 26 PIO2_2/DCD/MISO1, 27 PIO0_8/MISO0/CT16B0_MAT0, 28 PIO0_9/MOSI0/CT16B0_MAT1, 29 SWCLK/PIO0_10/SCK0/CT16B0_MAT2, 30 PIO1_10/AD6/CT16B1_MAT1, 31 PIO2_11/SCK0, 32 TDI/PIO0_11/AD0/CT32B0_MAT3, 33 TMS/PIO1_0/AD1/CT32B1_CAP0, 34 TDO/PIO1_1/AD2/CT32B1_MAT0, 35 TRST/PIO1_2/AD3/CT32B1_MAT1, 36 PIO3_0/DTR, 37 PIO3_1/DSR, 38 PIO2_3/RI/MOSI1, 39 SWDIO/PIO1_3/AD4/CT32B1_MAT2, 40 PIO1_4/AD5/CT32B1_MAT3/WAKEUP, 41 VSS(IO) (power), 42 PIO1_11/AD7, 43 PIO3_2/DCD, 44 VDD(3.3V) (power), 45 PIO1_5/RTS/CT32B0_CAP0, 46 PIO1_6/RXD/CT32B0_MAT0, 47 PIO1_7/TXD/CT32B0_MAT1, 48 PIO3_3/RI

## LPC1114/DIP28
designator U?, comment LPC1114 MCU  DIP28 Package   ARM Cortex M0, 50MHz Operation, 6 Channel 10-Bit ADC, 1²C, SPI, UART, 2x16 Bit and 2x32 Bit Timers, Internal 12MHz Oscillator, 1.8-3.6V operation.
footprint DIL28_600MIL
pins: 1 PIO0_8/MISO0/CT16B0_MAT0, 2 PIO0_9/MOSI0/CT16B0_MAT1, 3 SWCLK/PIO0_10/SCK0/CT16B0_MAT2, 4 R/PIO0_11/AD0/CT32B0_MAT3, 5 PIO0_5/SDA, 6 PIO0_6/SCK0, 7 VDDA, 8 VSSA, 9 R/PIO1_0/AD1/CT32B1_CAP0, 10 R/PIO1_1/AD2/CT32B1_MAT0, 11 R/PIO1_2/AD3/CT32B1_MAT1, 12 SWDIO/PIO1_3/AD4/CT32B1_MAT2, 13 PIO1_4/AD5/CT32B1_MAT3/WAKEUP, 14 PIO1_5/#RTS/CT32B0_CAP0, 15 PIO1_6/RXD/CT32B0_MAT0, 16 PIO1_7/TXD/CT32B0_MAT1, 17 PIO1_8/CT16B1_CAP0, 18 PIO1_9/CT16B1_MAT0, 19 XTALOUT, 20 XTALIN, 21 VDD, 22 VSS, 23 #RESET/PIO0_0, 24 PIO0_1/CLKOUT/CT32B0_MAT2, 25 PIO0_2/SSEL0/CT16B0_CAP0, 26 PIO0_3, 27 PIO0_4/SCL, 28 PIO0_7/#CTS

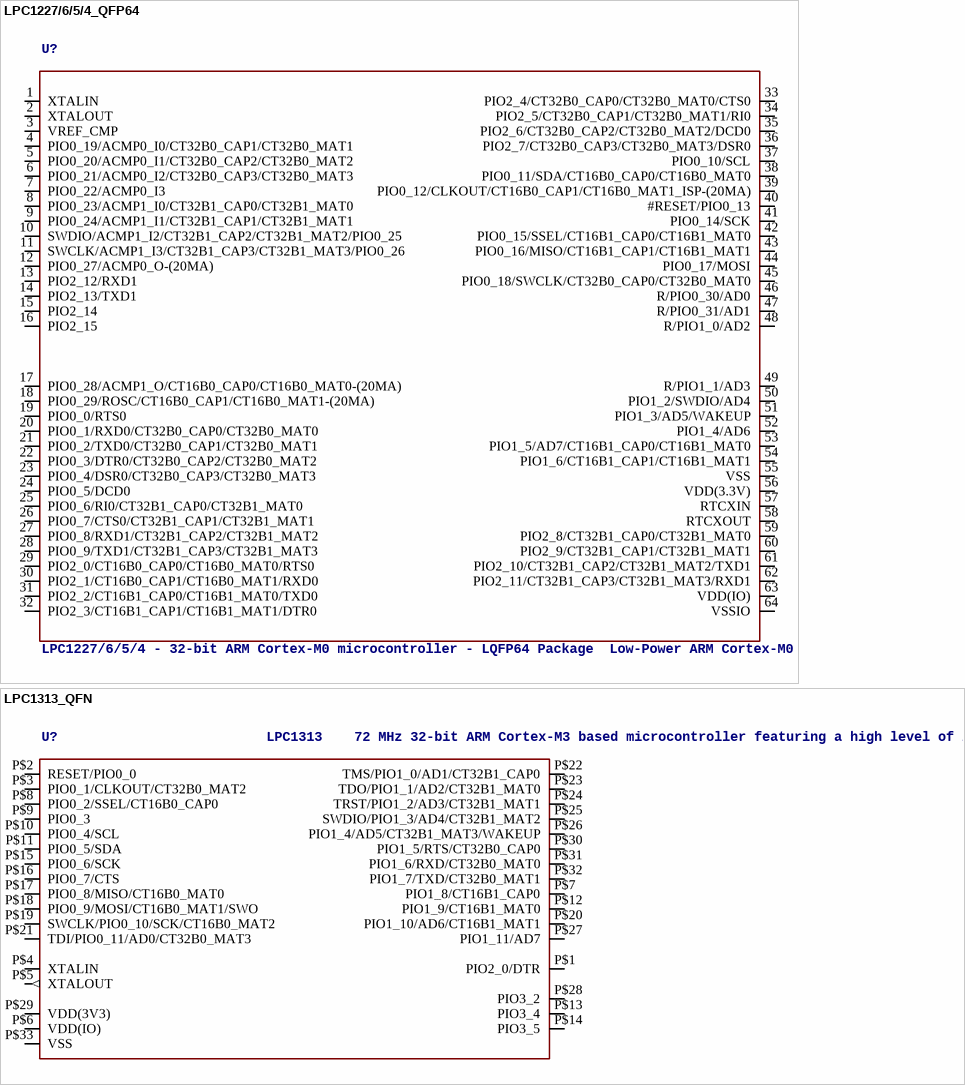
[diagram p30: symbols LPC1227/6/5/4_QFP64 to LPC1313_QFN]

## LPC1227/6/5/4_QFP64
designator U?, comment LPC1227/6/5/4 - 32-bit ARM Cortex-M0 microcontroller - LQFP64 Package  Low-Power ARM Cortex-M0 up to 33MHz  Up to 8KB SRAM / 128KB Flash  Digital Peripherals: Micro DMA Controller, CRC  Engine, 2xUART, SSP/SPI, I2C, 2x 32-bit Timers, 2x16-bit Timers  Analog Periherals: 8-Channel 10-bit ADC, 2 Analog Comparators
footprint LQFP64
pins: 1 XTALIN, 2 XTALOUT, 3 VREF_CMP, 4 PIO0_19/ACMP0_I0/CT32B0_CAP1/CT32B0_MAT1, 5 PIO0_20/ACMP0_I1/CT32B0_CAP2/CT32B0_MAT2, 6 PIO0_21/ACMP0_I2/CT32B0_CAP3/CT32B0_MAT3, 7 PIO0_22/ACMP0_I3, 8 PIO0_23/ACMP1_I0/CT32B1_CAP0/CT32B1_MAT0, 9 PIO0_24/ACMP1_I1/CT32B1_CAP1/CT32B1_MAT1, 10 SWDIO/ACMP1_I2/CT32B1_CAP2/CT32B1_MAT2/PIO0_25, 11 SWCLK/ACMP1_I3/CT32B1_CAP3/CT32B1_MAT3/PIO0_26, 12 PIO0_27/ACMP0_O-(20MA), 13 PIO2_12/RXD1, 14 PIO2_13/TXD1, 15 PIO2_14, 16 PIO2_15, 17 PIO0_28/ACMP1_O/CT16B0_CAP0/CT16B0_MAT0-(20MA), 18 PIO0_29/ROSC/CT16B0_CAP1/CT16B0_MAT1-(20MA), 19 PIO0_0/RTS0, 20 PIO0_1/RXD0/CT32B0_CAP0/CT32B0_MAT0, 21 PIO0_2/TXD0/CT32B0_CAP1/CT32B0_MAT1, 22 PIO0_3/DTR0/CT32B0_CAP2/CT32B0_MAT2, 23 PIO0_4/DSR0/CT32B0_CAP3/CT32B0_MAT3, 24 PIO0_5/DCD0, 25 PIO0_6/RI0/CT32B1_CAP0/CT32B1_MAT0, 26 PIO0_7/CTS0/CT32B1_CAP1/CT32B1_MAT1, 27 PIO0_8/RXD1/CT32B1_CAP2/CT32B1_MAT2, 28 PIO0_9/TXD1/CT32B1_CAP3/CT32B1_MAT3, 29 PIO2_0/CT16B0_CAP0/CT16B0_MAT0/RTS0, 30 PIO2_1/CT16B0_CAP1/CT16B0_MAT1/RXD0, 31 PIO2_2/CT16B1_CAP0/CT16B1_MAT0/TXD0, 32 PIO2_3/CT16B1_CAP1/CT16B1_MAT1/DTR0, 33 PIO2_4/CT32B0_CAP0/CT32B0_MAT0/CTS0, 34 PIO2_5/CT32B0_CAP1/CT32B0_MAT1/RI0, 35 PIO2_6/CT32B0_CAP2/CT32B0_MAT2/DCD0, 36 PIO2_7/CT32B0_CAP3/CT32B0_MAT3/DSR0, 37 PIO0_10/SCL, 38 PIO0_11/SDA/CT16B0_CAP0/CT16B0_MAT0, 39 PIO0_12/CLKOUT/CT16B0_CAP1/CT16B0_MAT1_ISP-(20MA), 40 #RESET/PIO0_13, 41 PIO0_14/SCK, 42 PIO0_15/SSEL/CT16B1_CAP0/CT16B1_MAT0, 43 PIO0_16/MISO/CT16B1_CAP1/CT16B1_MAT1, 44 PIO0_17/MOSI, 45 PIO0_18/SWCLK/CT32B0_CAP0/CT32B0_MAT0, 46 R/PIO0_30/AD0, 47 R/PIO0_31/AD1, 48 R/PIO1_0/AD2, 49 R/PIO1_1/AD3, 50 PIO1_2/SWDIO/AD4, 51 PIO1_3/AD5/WAKEUP, 52 PIO1_4/AD6, 53 PIO1_5/AD7/CT16B1_CAP0/CT16B1_MAT0, 54 PIO1_6/CT16B1_CAP1/CT16B1_MAT1, 55 VSS, 56 VDD(3.3V), 57 RTCXIN, 58 RTCXOUT, 59 PIO2_8/CT32B1_CAP0/CT32B1_MAT0, 60 PIO2_9/CT32B1_CAP1/CT32B1_MAT1, 61 PIO2_10/CT32B1_CAP2/CT32B1_MAT2/TXD1, 62 PIO2_11/CT32B1_CAP3/CT32B1_MAT3/RXD1, 63 VDD(IO), 64 VSSIO

## LPC1313_QFN
designator U?, comment LPC1313    72 MHz 32-bit ARM Cortex-M3 based microcontroller featuring a high level of integration and low power consumption. 32 kB Flash, 8 kB SRAM MarcVl - Datasheet available on www.nxp.com   Digikey: 568-4913-ND
footprint HVQFN33-7X7
pins: P$1 PIO2_0/DTR, P$2 RESET/PIO0_0, P$3 PIO0_1/CLKOUT/CT32B0_MAT2, P$4 XTALIN, P$5 XTALOUT (out), P$6 VDD(IO) (power), P$7 PIO1_8/CT16B1_CAP0, P$8 PIO0_2/SSEL/CT16B0_CAP0, P$9 PIO0_3, P$10 PIO0_4/SCL, P$11 PIO0_5/SDA, P$12 PIO1_9/CT16B1_MAT0, P$13 PIO3_4, P$14 PIO3_5, P$15 PIO0_6/SCK, P$16 PIO0_7/CTS, P$17 PIO0_8/MISO/CT16B0_MAT0, P$18 PIO0_9/MOSI/CT16B0_MAT1/SWO, P$19 SWCLK/PIO0_10/SCK/CT16B0_MAT2, P$20 PIO1_10/AD6/CT16B1_MAT1, P$21 TDI/PIO0_11/AD0/CT32B0_MAT3, P$22 TMS/PIO1_0/AD1/CT32B1_CAP0, P$23 TDO/PIO1_1/AD2/CT32B1_MAT0, P$24 TRST/PIO1_2/AD3/CT32B1_MAT1, P$25 SWDIO/PIO1_3/AD4/CT32B1_MAT2, P$26 PIO1_4/AD5/CT32B1_MAT3/WAKEUP, P$27 PIO1_11/AD7, P$28 PIO3_2, P$29 VDD(3V3) (power), P$30 PIO1_5/RTS/CT32B0_CAP0, P$31 PIO1_6/RXD/CT32B0_MAT0, P$32 PIO1_7/TXD/CT32B0_MAT1, P$33 VSS (power)

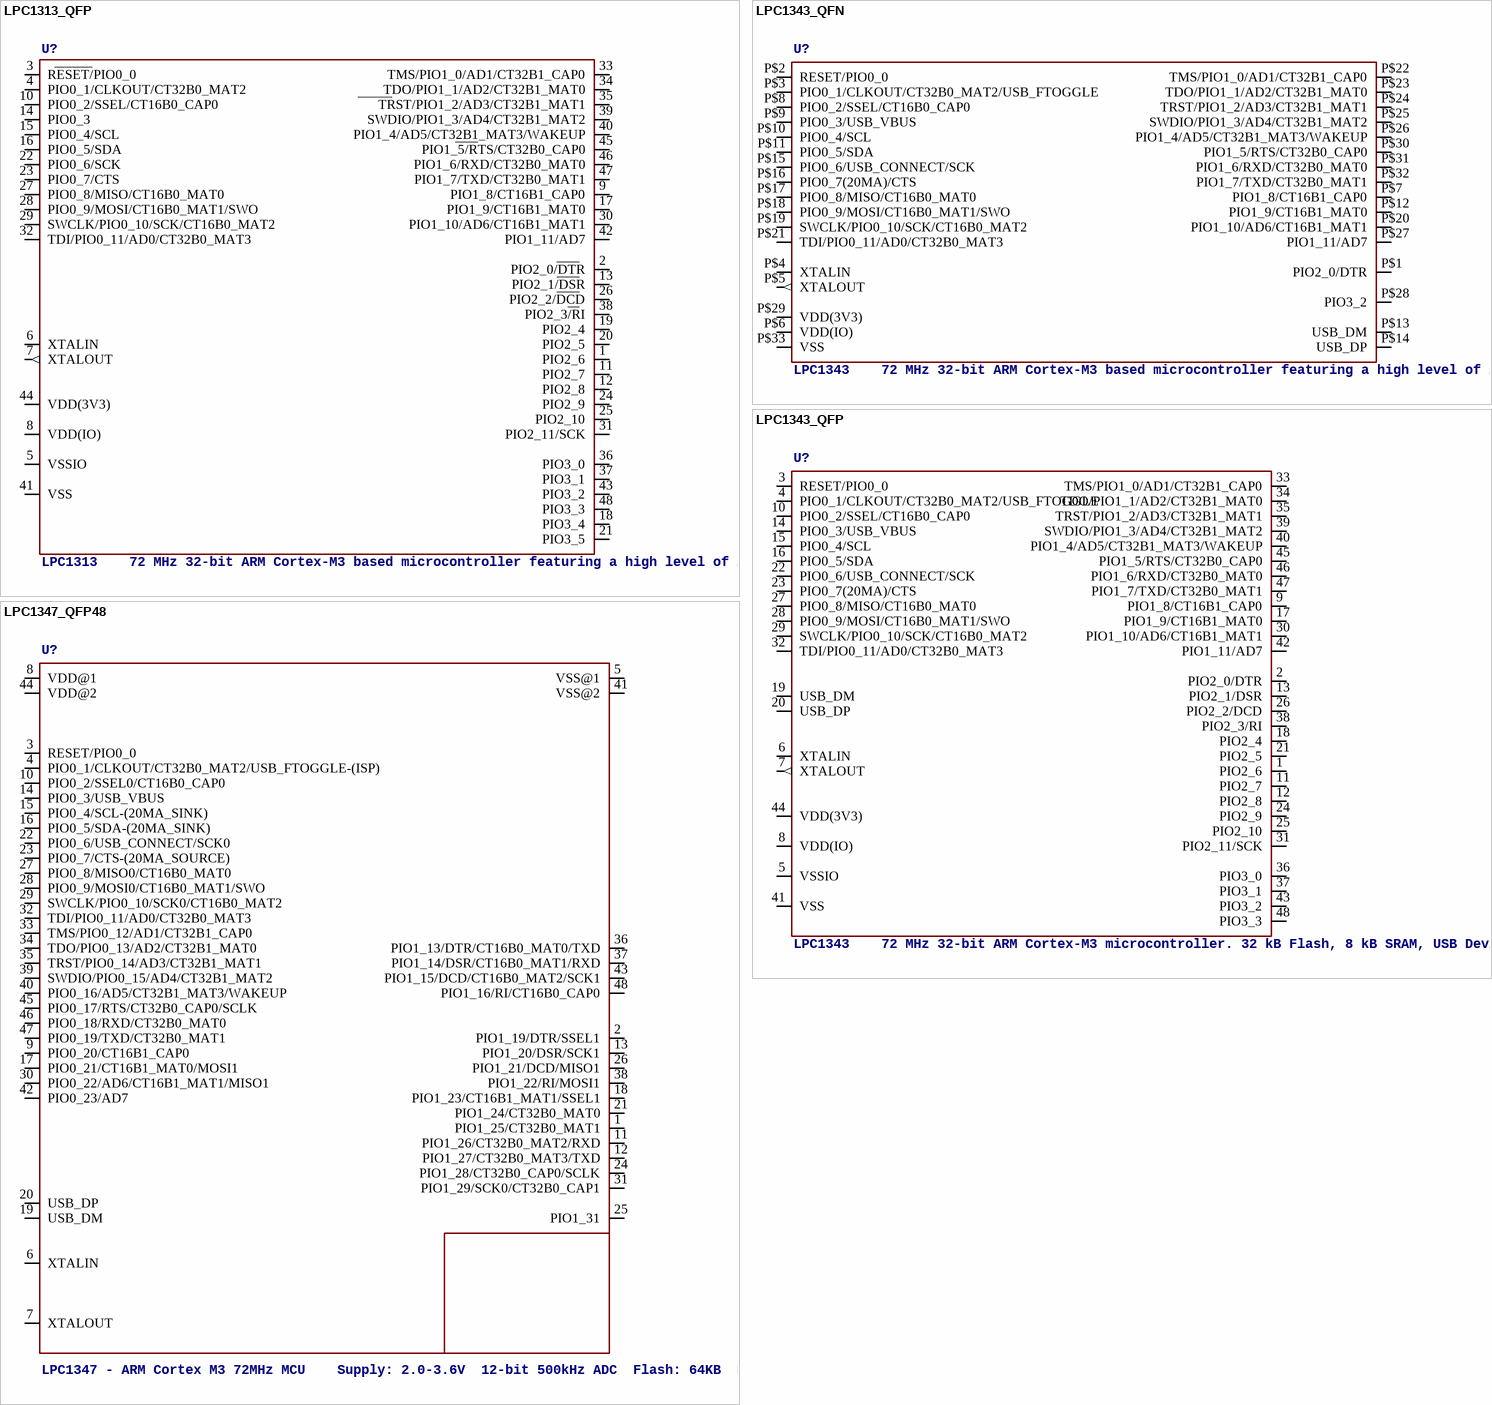
[diagram p31: symbols LPC1313_QFP to LPC1347_QFP48]

## LPC1313_QFP
designator U?, comment LPC1313    72 MHz 32-bit ARM Cortex-M3 based microcontroller featuring a high level of integration and low power consumption. 32 kB Flash, 8 kB SRAM MarcVl - Datasheet available on www.nxp.com   Digikey: 568-4914-ND
footprint LQFP48
pins: 1 PIO2_6, 2 PIO2_0/DTR, 3 RESET/PIO0_0, 4 PIO0_1/CLKOUT/CT32B0_MAT2, 5 VSSIO (power), 6 XTALIN, 7 XTALOUT (out), 8 VDD(IO) (power), 9 PIO1_8/CT16B1_CAP0, 10 PIO0_2/SSEL/CT16B0_CAP0, 11 PIO2_7, 12 PIO2_8, 13 PIO2_1/DSR, 14 PIO0_3, 15 PIO0_4/SCL, 16 PIO0_5/SDA, 17 PIO1_9/CT16B1_MAT0, 18 PIO3_4, 19 PIO2_4, 20 PIO2_5, 21 PIO3_5, 22 PIO0_6/SCK, 23 PIO0_7/CTS, 24 PIO2_9, 25 PIO2_10, 26 PIO2_2/DCD, 27 PIO0_8/MISO/CT16B0_MAT0, 28 PIO0_9/MOSI/CT16B0_MAT1/SWO, 29 SWCLK/PIO0_10/SCK/CT16B0_MAT2, 30 PIO1_10/AD6/CT16B1_MAT1, 31 PIO2_11/SCK, 32 TDI/PIO0_11/AD0/CT32B0_MAT3, 33 TMS/PIO1_0/AD1/CT32B1_CAP0, 34 TDO/PIO1_1/AD2/CT32B1_MAT0, 35 TRST/PIO1_2/AD3/CT32B1_MAT1, 36 PIO3_0, 37 PIO3_1, 38 PIO2_3/RI, 39 SWDIO/PIO1_3/AD4/CT32B1_MAT2, 40 PIO1_4/AD5/CT32B1_MAT3/WAKEUP, 41 VSS (power), 42 PIO1_11/AD7, 43 PIO3_2, 44 VDD(3V3) (power), 45 PIO1_5/RTS/CT32B0_CAP0, 46 PIO1_6/RXD/CT32B0_MAT0, 47 PIO1_7/TXD/CT32B0_MAT1, 48 PIO3_3

## LPC1343_QFN
designator U?, comment LPC1343    72 MHz 32-bit ARM Cortex-M3 based microcontroller featuring a high level of integration and low power consumption. 32 kB Flash, 8 kB SRAM, USB Device MarcVl - Datasheet available on www.nxp.com
MANF: NXP; MANF#: LPC1343FHN33,551; DIGIKEY#: 568-4944-ND
footprint HVQFN33-7X7
pins: P$1 PIO2_0/DTR, P$2 RESET/PIO0_0, P$3 PIO0_1/CLKOUT/CT32B0_MAT2/USB_FTOGGLE, P$4 XTALIN, P$5 XTALOUT (out), P$6 VDD(IO) (power), P$7 PIO1_8/CT16B1_CAP0, P$8 PIO0_2/SSEL/CT16B0_CAP0, P$9 PIO0_3/USB_VBUS, P$10 PIO0_4/SCL, P$11 PIO0_5/SDA, P$12 PIO1_9/CT16B1_MAT0, P$13 USB_DM, P$14 USB_DP, P$15 PIO0_6/USB_CONNECT/SCK, P$16 PIO0_7(20MA)/CTS, P$17 PIO0_8/MISO/CT16B0_MAT0, P$18 PIO0_9/MOSI/CT16B0_MAT1/SWO, P$19 SWCLK/PIO0_10/SCK/CT16B0_MAT2, P$20 PIO1_10/AD6/CT16B1_MAT1, P$21 TDI/PIO0_11/AD0/CT32B0_MAT3, P$22 TMS/PIO1_0/AD1/CT32B1_CAP0, P$23 TDO/PIO1_1/AD2/CT32B1_MAT0, P$24 TRST/PIO1_2/AD3/CT32B1_MAT1, P$25 SWDIO/PIO1_3/AD4/CT32B1_MAT2, P$26 PIO1_4/AD5/CT32B1_MAT3/WAKEUP, P$27 PIO1_11/AD7, P$28 PIO3_2, P$29 VDD(3V3) (power), P$30 PIO1_5/RTS/CT32B0_CAP0, P$31 PIO1_6/RXD/CT32B0_MAT0, P$32 PIO1_7/TXD/CT32B0_MAT1, P$33 VSS (power)

## LPC1343_QFP
designator U?, comment LPC1343    72 MHz 32-bit ARM Cortex-M3 microcontroller. 32 kB Flash, 8 kB SRAM, USB Device    Mouser: 771-LPC1343FBD48151  Digikey: 568-4945-ND
MANF: NXP; MANF#: LPC1343FBD48,151; DIGIKEY#: 568-4945-ND
footprint LQFP48
pins: 1 PIO2_6, 2 PIO2_0/DTR, 3 RESET/PIO0_0, 4 PIO0_1/CLKOUT/CT32B0_MAT2/USB_FTOGGLE, 5 VSSIO (power), 6 XTALIN, 7 XTALOUT (out), 8 VDD(IO) (power), 9 PIO1_8/CT16B1_CAP0, 10 PIO0_2/SSEL/CT16B0_CAP0, 11 PIO2_7, 12 PIO2_8, 13 PIO2_1/DSR, 14 PIO0_3/USB_VBUS, 15 PIO0_4/SCL, 16 PIO0_5/SDA, 17 PIO1_9/CT16B1_MAT0, 18 PIO2_4, 19 USB_DM, 20 USB_DP, 21 PIO2_5, 22 PIO0_6/USB_CONNECT/SCK, 23 PIO0_7(20MA)/CTS, 24 PIO2_9, 25 PIO2_10, 26 PIO2_2/DCD, 27 PIO0_8/MISO/CT16B0_MAT0, 28 PIO0_9/MOSI/CT16B0_MAT1/SWO, 29 SWCLK/PIO0_10/SCK/CT16B0_MAT2, 30 PIO1_10/AD6/CT16B1_MAT1, 31 PIO2_11/SCK, 32 TDI/PIO0_11/AD0/CT32B0_MAT3, 33 TMS/PIO1_0/AD1/CT32B1_CAP0, 34 TDO/PIO1_1/AD2/CT32B1_MAT0, 35 TRST/PIO1_2/AD3/CT32B1_MAT1, 36 PIO3_0, 37 PIO3_1, 38 PIO2_3/RI, 39 SWDIO/PIO1_3/AD4/CT32B1_MAT2, 40 PIO1_4/AD5/CT32B1_MAT3/WAKEUP, 41 VSS (power), 42 PIO1_11/AD7, 43 PIO3_2, 44 VDD(3V3) (power), 45 PIO1_5/RTS/CT32B0_CAP0, 46 PIO1_6/RXD/CT32B0_MAT0, 47 PIO1_7/TXD/CT32B0_MAT1, 48 PIO3_3

## LPC1347_QFP48
designator U?, comment LPC1347 - ARM Cortex M3 72MHz MCU    Supply: 2.0-3.6V  12-bit 500kHz ADC  Flash: 64KB  EEPROM: 4KB  SRAM: 8KB SRAM0 + 2KB SRAM1 + 2KB USB  Temp: -40°C - 85°C
footprint LQFP48
pins: 1 PIO1_25/CT32B0_MAT1, 2 PIO1_19/DTR/SSEL1, 3 RESET/PIO0_0, 4 PIO0_1/CLKOUT/CT32B0_MAT2/USB_FTOGGLE-(ISP), 5 VSS@1 (power), 6 XTALIN, 7 XTALOUT, 8 VDD@1 (power), 9 PIO0_20/CT16B1_CAP0, 10 PIO0_2/SSEL0/CT16B0_CAP0, 11 PIO1_26/CT32B0_MAT2/RXD, 12 PIO1_27/CT32B0_MAT3/TXD, 13 PIO1_20/DSR/SCK1, 14 PIO0_3/USB_VBUS, 15 PIO0_4/SCL-(20MA_SINK), 16 PIO0_5/SDA-(20MA_SINK), 17 PIO0_21/CT16B1_MAT0/MOSI1, 18 PIO1_23/CT16B1_MAT1/SSEL1, 19 USB_DM, 20 USB_DP, 21 PIO1_24/CT32B0_MAT0, 22 PIO0_6/USB_CONNECT/SCK0, 23 PIO0_7/CTS-(20MA_SOURCE), 24 PIO1_28/CT32B0_CAP0/SCLK, 25 PIO1_31, 26 PIO1_21/DCD/MISO1, 27 PIO0_8/MISO0/CT16B0_MAT0, 28 PIO0_9/MOSI0/CT16B0_MAT1/SWO, 29 SWCLK/PIO0_10/SCK0/CT16B0_MAT2, 30 PIO0_22/AD6/CT16B1_MAT1/MISO1, 31 PIO1_29/SCK0/CT32B0_CAP1, 32 TDI/PIO0_11/AD0/CT32B0_MAT3, 33 TMS/PIO0_12/AD1/CT32B1_CAP0, 34 TDO/PIO0_13/AD2/CT32B1_MAT0, 35 TRST/PIO0_14/AD3/CT32B1_MAT1, 36 PIO1_13/DTR/CT16B0_MAT0/TXD, 37 PIO1_14/DSR/CT16B0_MAT1/RXD, 38 PIO1_22/RI/MOSI1, 39 SWDIO/PIO0_15/AD4/CT32B1_MAT2, 40 PIO0_16/AD5/CT32B1_MAT3/WAKEUP, 41 VSS@2 (power), 42 PIO0_23/AD7, 43 PIO1_15/DCD/CT16B0_MAT2/SCK1, 44 VDD@2 (power), 45 PIO0_17/RTS/CT32B0_CAP0/SCLK, 46 PIO0_18/RXD/CT32B0_MAT0, 47 PIO0_19/TXD/CT32B0_MAT1, 48 PIO1_16/RI/CT16B0_CAP0

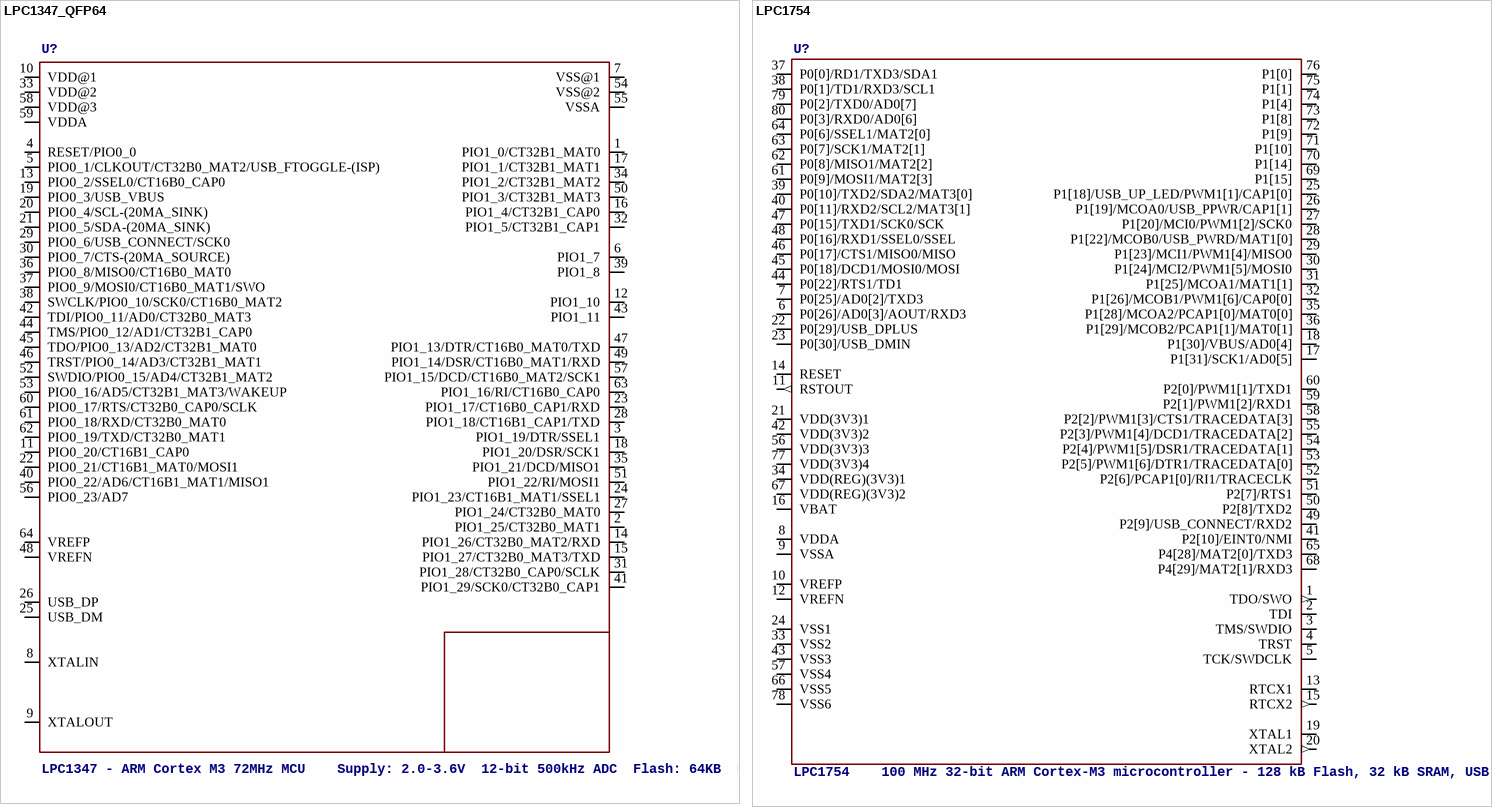
[diagram p32: symbols LPC1347_QFP64 to LPC1754]

## LPC1347_QFP64
designator U?, comment LPC1347 - ARM Cortex M3 72MHz MCU    Supply: 2.0-3.6V  12-bit 500kHz ADC  Flash: 64KB  EEPROM: 4KB  SRAM: 8KB SRAM0 + 2KB SRAM1 + 2KB USB  Temp: -40°C - 85°C
footprint LQFP64
pins: 1 PIO1_0/CT32B1_MAT0, 2 PIO1_25/CT32B0_MAT1, 3 PIO1_19/DTR/SSEL1, 4 RESET/PIO0_0, 5 PIO0_1/CLKOUT/CT32B0_MAT2/USB_FTOGGLE-(ISP), 6 PIO1_7, 7 VSS@1 (power), 8 XTALIN, 9 XTALOUT, 10 VDD@1 (power), 11 PIO0_20/CT16B1_CAP0, 12 PIO1_10, 13 PIO0_2/SSEL0/CT16B0_CAP0, 14 PIO1_26/CT32B0_MAT2/RXD, 15 PIO1_27/CT32B0_MAT3/TXD, 16 PIO1_4/CT32B1_CAP0, 17 PIO1_1/CT32B1_MAT1, 18 PIO1_20/DSR/SCK1, 19 PIO0_3/USB_VBUS, 20 PIO0_4/SCL-(20MA_SINK), 21 PIO0_5/SDA-(20MA_SINK), 22 PIO0_21/CT16B1_MAT0/MOSI1, 23 PIO1_17/CT16B0_CAP1/RXD, 24 PIO1_23/CT16B1_MAT1/SSEL1, 25 USB_DM, 26 USB_DP, 27 PIO1_24/CT32B0_MAT0, 28 PIO1_18/CT16B1_CAP1/TXD, 29 PIO0_6/USB_CONNECT/SCK0, 30 PIO0_7/CTS-(20MA_SOURCE), 31 PIO1_28/CT32B0_CAP0/SCLK, 32 PIO1_5/CT32B1_CAP1, 33 VDD@2 (power), 34 PIO1_2/CT32B1_MAT2, 35 PIO1_21/DCD/MISO1, 36 PIO0_8/MISO0/CT16B0_MAT0, 37 PIO0_9/MOSI0/CT16B0_MAT1/SWO, 38 SWCLK/PIO0_10/SCK0/CT16B0_MAT2, 39 PIO1_8, 40 PIO0_22/AD6/CT16B1_MAT1/MISO1, 41 PIO1_29/SCK0/CT32B0_CAP1, 42 TDI/PIO0_11/AD0/CT32B0_MAT3, 43 PIO1_11, 44 TMS/PIO0_12/AD1/CT32B1_CAP0, 45 TDO/PIO0_13/AD2/CT32B1_MAT0, 46 TRST/PIO0_14/AD3/CT32B1_MAT1, 47 PIO1_13/DTR/CT16B0_MAT0/TXD, 48 VREFN, 49 PIO1_14/DSR/CT16B0_MAT1/RXD, 50 PIO1_3/CT32B1_MAT3, 51 PIO1_22/RI/MOSI1, 52 SWDIO/PIO0_15/AD4/CT32B1_MAT2, 53 PIO0_16/AD5/CT32B1_MAT3/WAKEUP, 54 VSS@2 (power), 55 VSSA (power), 56 PIO0_23/AD7, 57 PIO1_15/DCD/CT16B0_MAT2/SCK1, 58 VDD@3 (power), 59 VDDA (power), 60 PIO0_17/RTS/CT32B0_CAP0/SCLK, 61 PIO0_18/RXD/CT32B0_MAT0, 62 PIO0_19/TXD/CT32B0_MAT1, 63 PIO1_16/RI/CT16B0_CAP0, 64 VREFP

## LPC1754
designator U?, comment LPC1754    100 MHz 32-bit ARM Cortex-M3 microcontroller - 128 kB Flash, 32 kB SRAM, USB Device/Host/OTG, CAN, DAC, RTC    Digikey: 568-4790-ND
footprint LQFP80
pins: 1 TDO/SWO (out), 2 TDI, 3 TMS/SWDIO, 4 TRST, 5 TCK/SWDCLK, 6 P0[26]/AD0[3]/AOUT/RXD3, 7 P0[25]/AD0[2]/TXD3, 8 VDDA (power), 9 VSSA (power), 10 VREFP, 11 RSTOUT (out), 12 VREFN, 13 RTCX1, 14 RESET, 15 RTCX2 (out), 16 VBAT (power), 17 P1[31]/SCK1/AD0[5], 18 P1[30]/VBUS/AD0[4], 19 XTAL1, 20 XTAL2 (out), 21 VDD(3V3)1 (power), 22 P0[29]/USB_DPLUS, 23 P0[30]/USB_DMIN, 24 VSS1 (power), 25 P1[18]/USB_UP_LED/PWM1[1]/CAP1[0], 26 P1[19]/MCOA0/USB_PPWR/CAP1[1], 27 P1[20]/MCI0/PWM1[2]/SCK0, 28 P1[22]/MCOB0/USB_PWRD/MAT1[0], 29 P1[23]/MCI1/PWM1[4]/MISO0, 30 P1[24]/MCI2/PWM1[5]/MOSI0, 31 P1[25]/MCOA1/MAT1[1], 32 P1[26]/MCOB1/PWM1[6]/CAP0[0], 33 VSS2 (power), 34 VDD(REG)(3V3)1 (power), 35 P1[28]/MCOA2/PCAP1[0]/MAT0[0], 36 P1[29]/MCOB2/PCAP1[1]/MAT0[1], 37 P0[0]/RD1/TXD3/SDA1, 38 P0[1]/TD1/RXD3/SCL1, 39 P0[10]/TXD2/SDA2/MAT3[0], 40 P0[11]/RXD2/SCL2/MAT3[1], 41 P2[10]/EINT0/NMI, 42 VDD(3V3)2 (power), 43 VSS3 (power), 44 P0[22]/RTS1/TD1, 45 P0[18]/DCD1/MOSI0/MOSI, 46 P0[17]/CTS1/MISO0/MISO, 47 P0[15]/TXD1/SCK0/SCK, 48 P0[16]/RXD1/SSEL0/SSEL, 49 P2[9]/USB_CONNECT/RXD2, 50 P2[8]/TXD2, 51 P2[7]/RTS1, 52 P2[6]/PCAP1[0]/RI1/TRACECLK, 53 P2[5]/PWM1[6]/DTR1/TRACEDATA[0], 54 P2[4]/PWM1[5]/DSR1/TRACEDATA[1], 55 P2[3]/PWM1[4]/DCD1/TRACEDATA[2], 56 VDD(3V3)3 (power), 57 VSS4 (power), 58 P2[2]/PWM1[3]/CTS1/TRACEDATA[3], 59 P2[1]/PWM1[2]/RXD1, 60 P2[0]/PWM1[1]/TXD1, 61 P0[9]/MOSI1/MAT2[3], 62 P0[8]/MISO1/MAT2[2], 63 P0[7]/SCK1/MAT2[1], 64 P0[6]/SSEL1/MAT2[0], 65 P4[28]/MAT2[0]/TXD3, 66 VSS5 (power), 67 VDD(REG)(3V3)2 (power), 68 P4[29]/MAT2[1]/RXD3, 69 P1[15], 70 P1[14], 71 P1[10], 72 P1[9], 73 P1[8], 74 P1[4], 75 P1[1], 76 P1[0], 77 VDD(3V3)4 (power), 78 VSS6 (power), 79 P0[2]/TXD0/AD0[7], 80 P0[3]/RXD0/AD0[6]

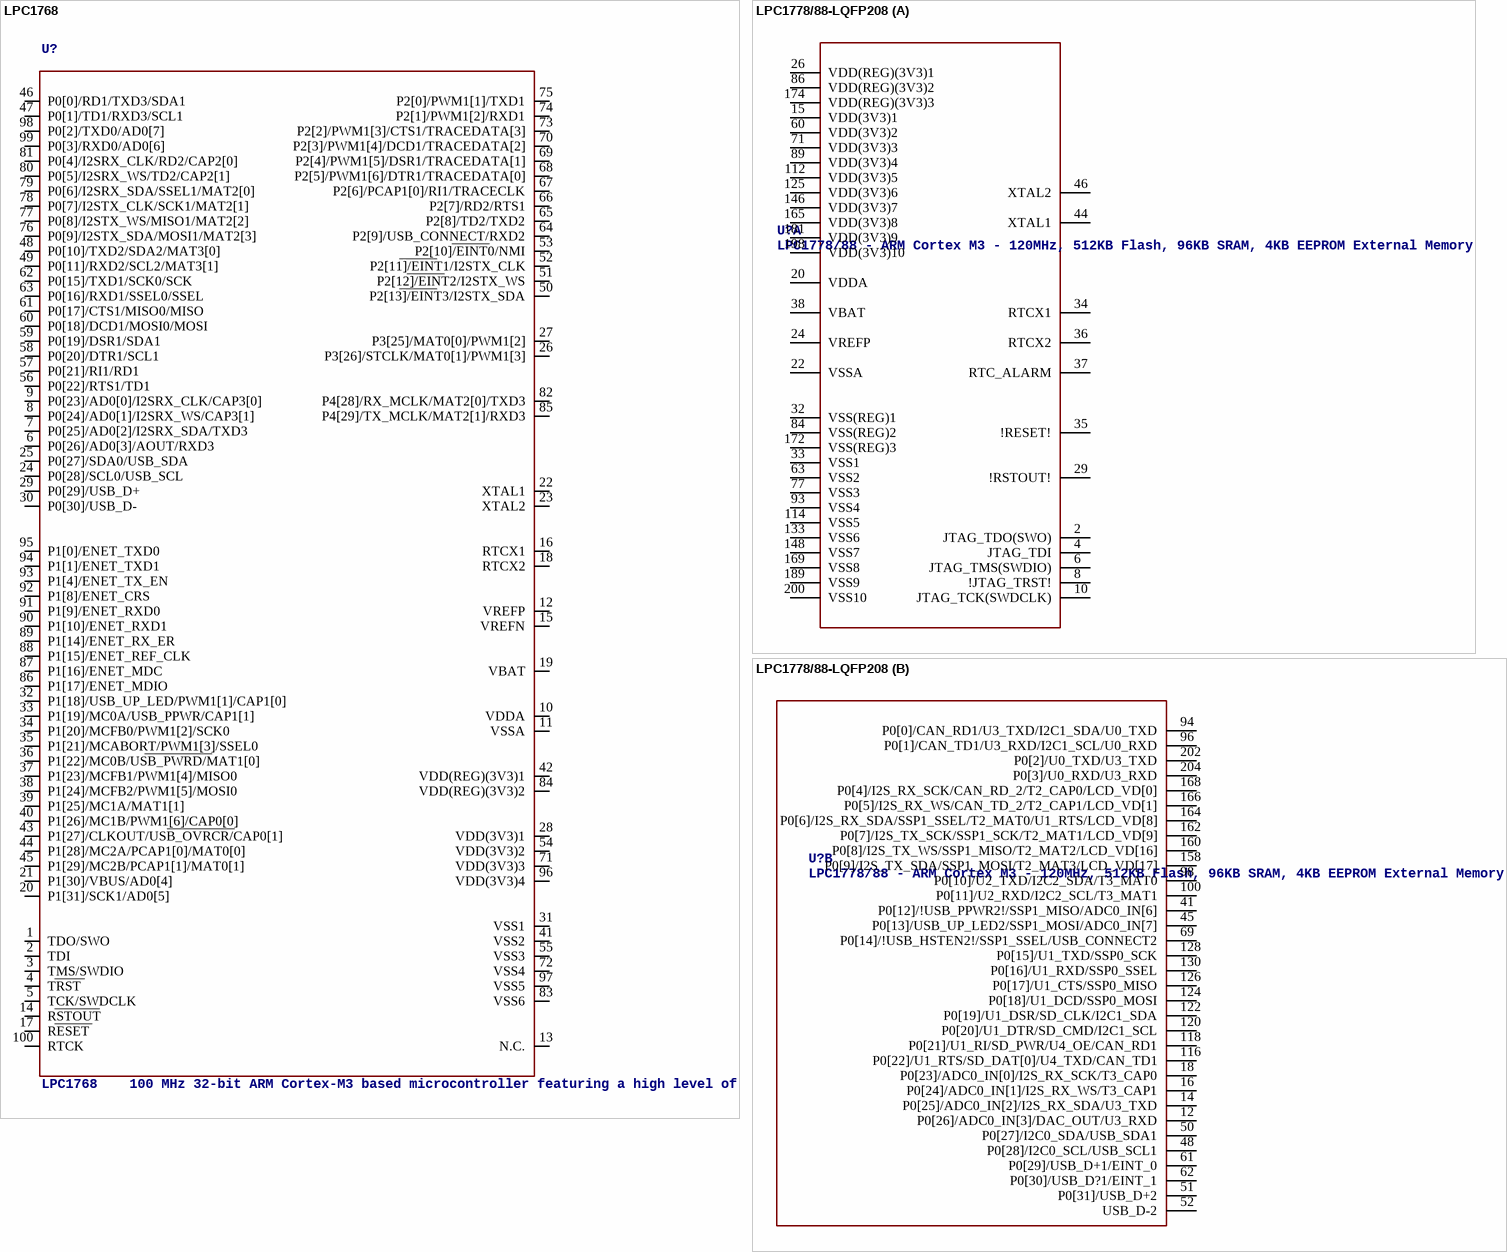
[diagram p33: symbols LPC1768 to LPC1778/88-LQFP208]

## LPC1768
designator U?, comment LPC1768    100 MHz 32-bit ARM Cortex-M3 based microcontroller featuring a high level of integration and low power consumption. 512 kB Flash, 64 kB SRAM, USB Device/Host/OTG, Ethernet, CAN, I2S, 10-bit DAC    Digikey: 568-4796-ND
footprint LQFP100
pins: 1 TDO/SWO, 2 TDI, 3 TMS/SWDIO, 4 TRST, 5 TCK/SWDCLK, 6 P0[26]/AD0[3]/AOUT/RXD3, 7 P0[25]/AD0[2]/I2SRX_SDA/TXD3, 8 P0[24]/AD0[1]/I2SRX_WS/CAP3[1], 9 P0[23]/AD0[0]/I2SRX_CLK/CAP3[0], 10 VDDA (power), 11 VSSA (power), 12 VREFP (power), 13 N.C., 14 RSTOUT, 15 VREFN (power), 16 RTCX1, 17 RESET, 18 RTCX2, 19 VBAT (power), 20 P1[31]/SCK1/AD0[5], 21 P1[30]/VBUS/AD0[4], 22 XTAL1, 23 XTAL2, 24 P0[28]/SCL0/USB_SCL, 25 P0[27]/SDA0/USB_SDA, 26 P3[26]/STCLK/MAT0[1]/PWM1[3], 27 P3[25]/MAT0[0]/PWM1[2], 28 VDD(3V3)1 (power), 29 P0[29]/USB_D+, 30 P0[30]/USB_D-, 31 VSS1 (power), 32 P1[18]/USB_UP_LED/PWM1[1]/CAP1[0], 33 P1[19]/MC0A/USB_PPWR/CAP1[1], 34 P1[20]/MCFB0/PWM1[2]/SCK0, 35 P1[21]/MCABORT/PWM1[3]/SSEL0, 36 P1[22]/MC0B/USB_PWRD/MAT1[0], 37 P1[23]/MCFB1/PWM1[4]/MISO0, 38 P1[24]/MCFB2/PWM1[5]/MOSI0, 39 P1[25]/MC1A/MAT1[1], 40 P1[26]/MC1B/PWM1[6]/CAP0[0], 41 VSS2 (power), 42 VDD(REG)(3V3)1 (power), 43 P1[27]/CLKOUT/USB_OVRCR/CAP0[1], 44 P1[28]/MC2A/PCAP1[0]/MAT0[0], 45 P1[29]/MC2B/PCAP1[1]/MAT0[1], 46 P0[0]/RD1/TXD3/SDA1, 47 P0[1]/TD1/RXD3/SCL1, 48 P0[10]/TXD2/SDA2/MAT3[0], 49 P0[11]/RXD2/SCL2/MAT3[1], 50 P2[13]/EINT3/I2STX_SDA, 51 P2[12]/EINT2/I2STX_WS, 52 P2[11]/EINT1/I2STX_CLK, 53 P2[10]/EINT0/NMI, 54 VDD(3V3)2 (power), 55 VSS3 (power), 56 P0[22]/RTS1/TD1, 57 P0[21]/RI1/RD1, 58 P0[20]/DTR1/SCL1, 59 P0[19]/DSR1/SDA1, 60 P0[18]/DCD1/MOSI0/MOSI, 61 P0[17]/CTS1/MISO0/MISO, 62 P0[15]/TXD1/SCK0/SCK, 63 P0[16]/RXD1/SSEL0/SSEL, 64 P2[9]/USB_CONNECT/RXD2, 65 P2[8]/TD2/TXD2, 66 P2[7]/RD2/RTS1, 67 P2[6]/PCAP1[0]/RI1/TRACECLK, 68 P2[5]/PWM1[6]/DTR1/TRACEDATA[0], 69 P2[4]/PWM1[5]/DSR1/TRACEDATA[1], 70 P2[3]/PWM1[4]/DCD1/TRACEDATA[2], 71 VDD(3V3)3 (power), 72 VSS4 (power), 73 P2[2]/PWM1[3]/CTS1/TRACEDATA[3], 74 P2[1]/PWM1[2]/RXD1, 75 P2[0]/PWM1[1]/TXD1, 76 P0[9]/I2STX_SDA/MOSI1/MAT2[3], 77 P0[8]/I2STX_WS/MISO1/MAT2[2], 78 P0[7]/I2STX_CLK/SCK1/MAT2[1], 79 P0[6]/I2SRX_SDA/SSEL1/MAT2[0], 80 P0[5]/I2SRX_WS/TD2/CAP2[1], 81 P0[4]/I2SRX_CLK/RD2/CAP2[0], 82 P4[28]/RX_MCLK/MAT2[0]/TXD3, 83 VSS6 (power), 84 VDD(REG)(3V3)2 (power), 85 P4[29]/TX_MCLK/MAT2[1]/RXD3, 86 P1[17]/ENET_MDIO, 87 P1[16]/ENET_MDC, 88 P1[15]/ENET_REF_CLK, 89 P1[14]/ENET_RX_ER, 90 P1[10]/ENET_RXD1, 91 P1[9]/ENET_RXD0, 92 P1[8]/ENET_CRS, 93 P1[4]/ENET_TX_EN, 94 P1[1]/ENET_TXD1, 95 P1[0]/ENET_TXD0, 96 VDD(3V3)4 (power), 97 VSS5 (power), 98 P0[2]/TXD0/AD0[7], 99 P0[3]/RXD0/AD0[6], 100 RTCK

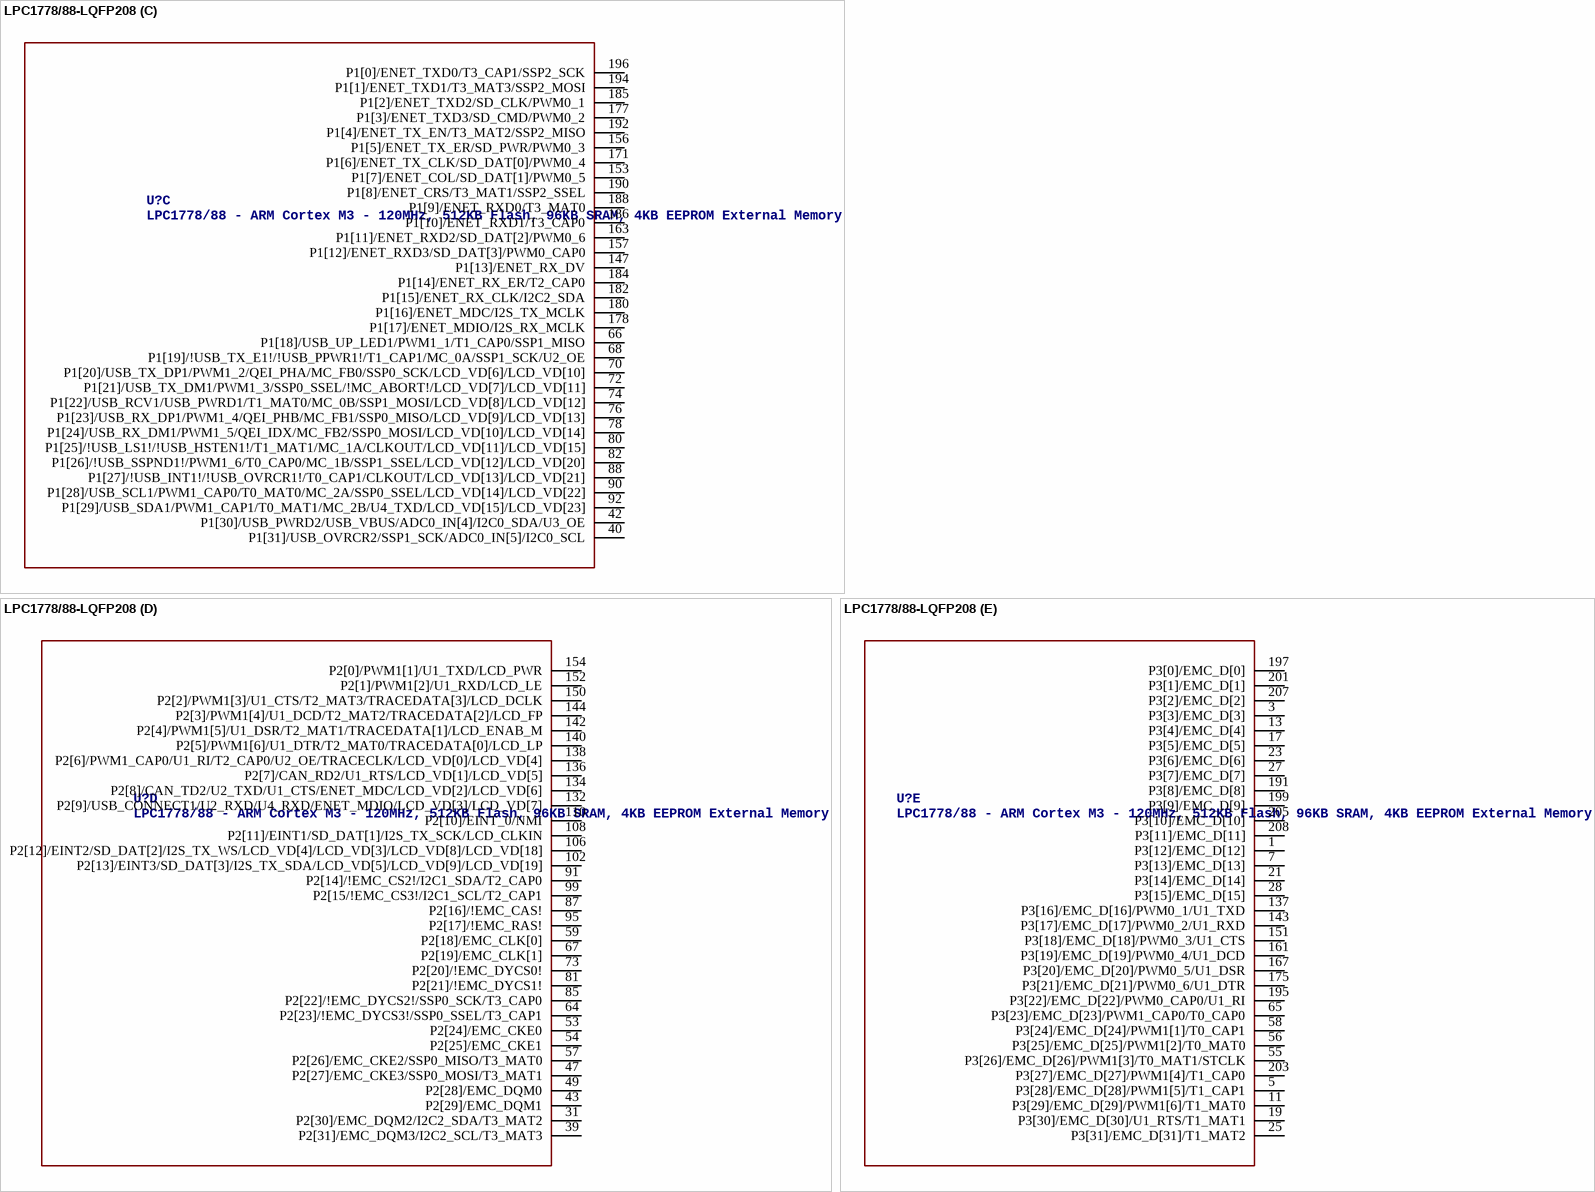
[diagram p34: symbol LPC1778/88-LQFP208]

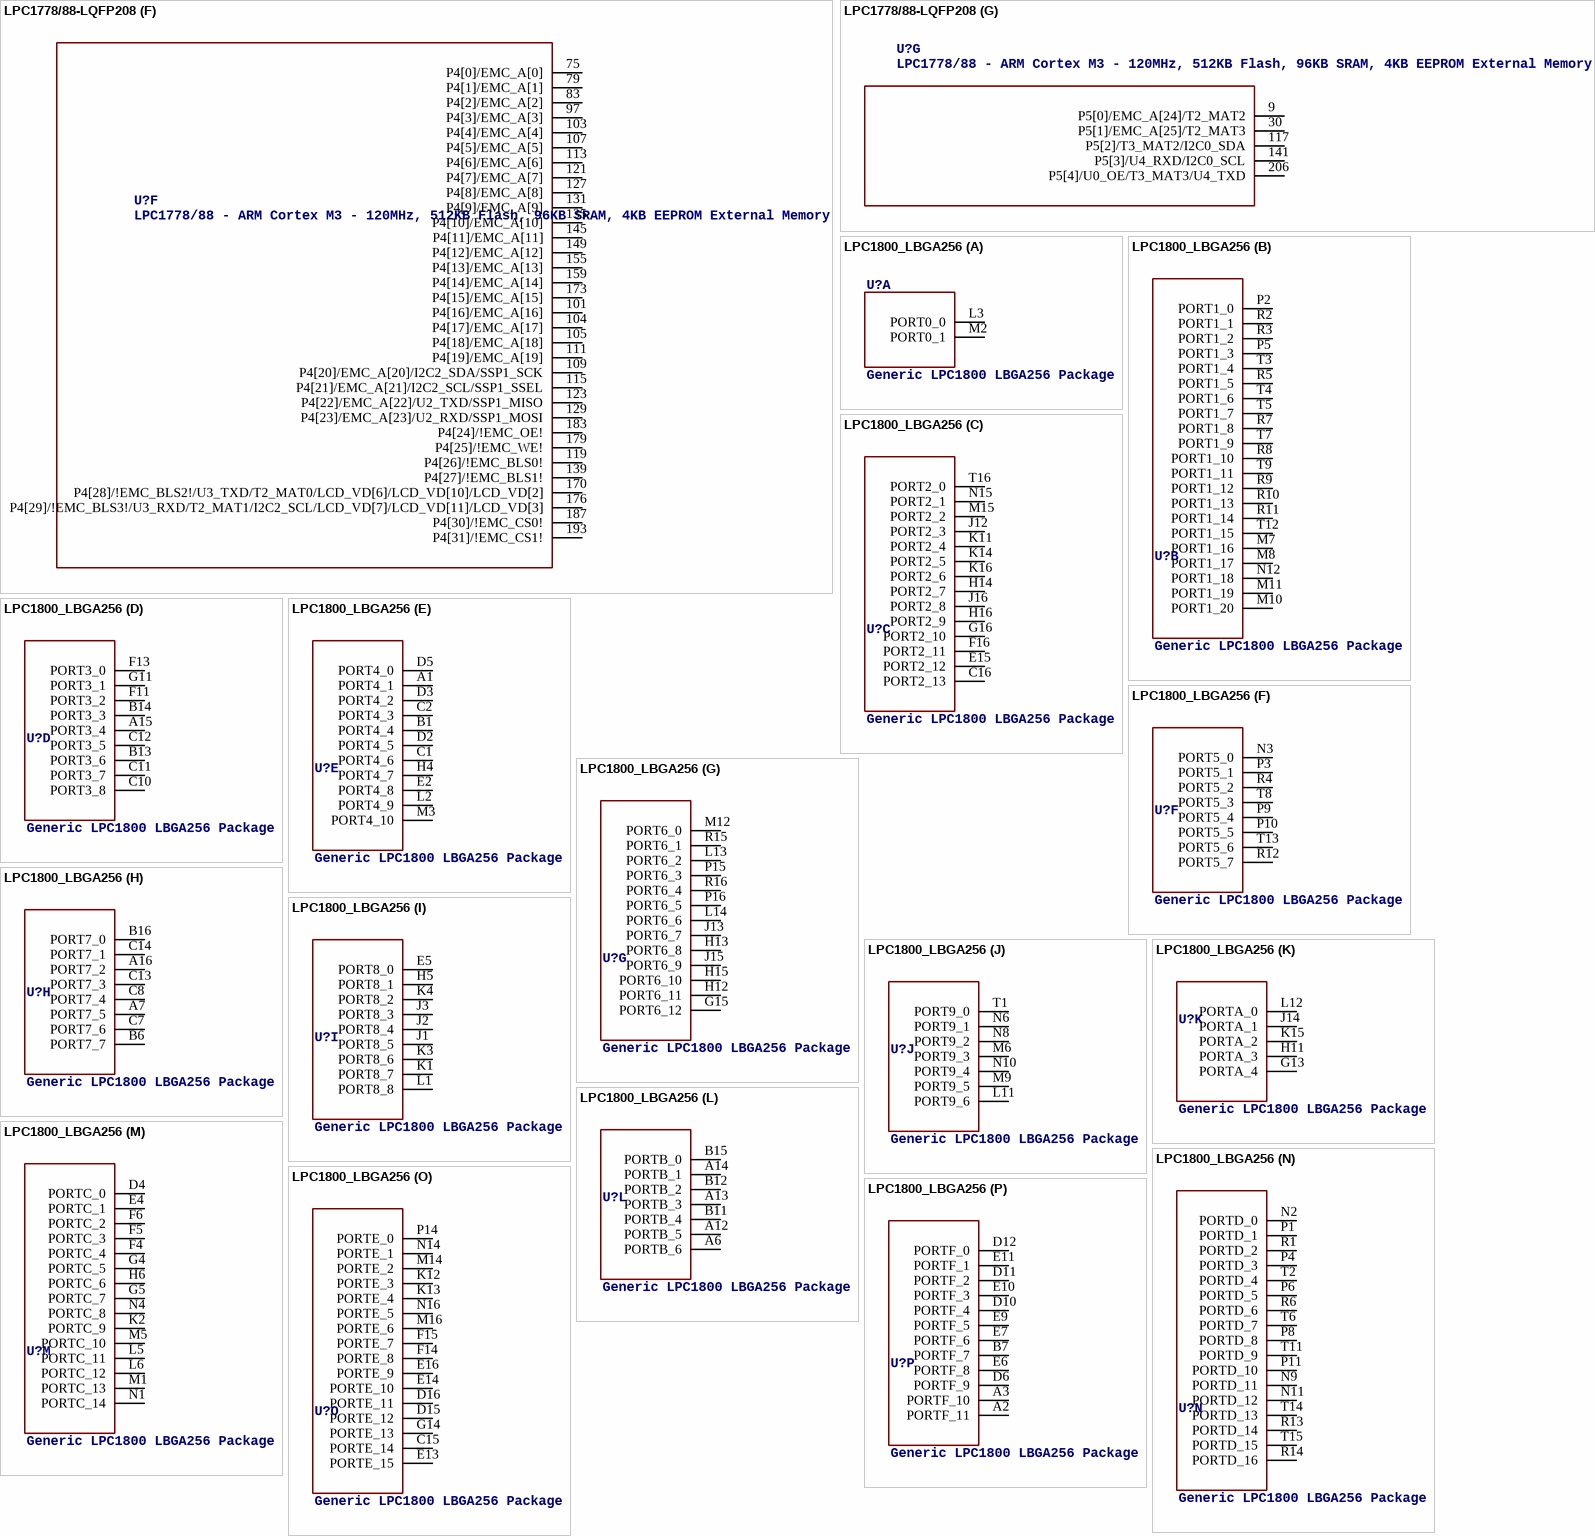
[diagram p35: symbols LPC1778/88-LQFP208 to LPC1800_LBGA256]

## LPC1778/88-LQFP208
designator U?, comment LPC1778/88 - ARM Cortex M3 - 120MHz, 512KB Flash, 96KB SRAM, 4KB EEPROM External Memory Controller  LCD Controller  10/100 Ethernet  USB 2.0 Host/Device/OTG  2 CAN  12-bit ADC  10-bit DAC  SD/MMC  I2S
footprint LQFP208
part A pins: 2 JTAG_TDO(SWO), 4 JTAG_TDI, 6 JTAG_TMS(SWDIO), 8 !JTAG_TRST!, 10 JTAG_TCK(SWDCLK), 15 VDD(3V3)1, 20 VDDA, 22 VSSA, 24 VREFP, 26 VDD(REG)(3V3)1, 29 !RSTOUT!, 32 VSS(REG)1, 33 VSS1, 34 RTCX1, 35 !RESET!, 36 RTCX2, 37 RTC_ALARM, 38 VBAT, 44 XTAL1, 46 XTAL2, 60 VDD(3V3)2, 63 VSS2, 71 VDD(3V3)3, 77 VSS3, 84 VSS(REG)2, 86 VDD(REG)(3V3)2, 89 VDD(3V3)4, 93 VSS4, 112 VDD(3V3)5, 114 VSS5, 125 VDD(3V3)6, 133 VSS6, 146 VDD(3V3)7, 148 VSS7, 165 VDD(3V3)8, 169 VSS8, 172 VSS(REG)3, 174 VDD(REG)(3V3)3, 181 VDD(3V3)9, 189 VSS9, 198 VDD(3V3)10, 200 VSS10
part B pins: 12 P0[26]/ADC0_IN[3]/DAC_OUT/U3_RXD, 14 P0[25]/ADC0_IN[2]/I2S_RX_SDA/U3_TXD, 16 P0[24]/ADC0_IN[1]/I2S_RX_WS/T3_CAP1, 18 P0[23]/ADC0_IN[0]/I2S_RX_SCK/T3_CAP0, 41 P0[12]/!USB_PPWR2!/SSP1_MISO/ADC0_IN[6], 45 P0[13]/USB_UP_LED2/SSP1_MOSI/ADC0_IN[7], 48 P0[28]/I2C0_SCL/USB_SCL1, 50 P0[27]/I2C0_SDA/USB_SDA1, 51 P0[31]/USB_D+2, 52 USB_D-2, 61 P0[29]/USB_D+1/EINT_0, 62 P0[30]/USB_D?1/EINT_1, 69 P0[14]/!USB_HSTEN2!/SSP1_SSEL/USB_CONNECT2, 94 P0[0]/CAN_RD1/U3_TXD/I2C1_SDA/U0_TXD, 96 P0[1]/CAN_TD1/U3_RXD/I2C1_SCL/U0_RXD, 98 P0[10]/U2_TXD/I2C2_SDA/T3_MAT0, 100 P0[11]/U2_RXD/I2C2_SCL/T3_MAT1, 116 P0[22]/U1_RTS/SD_DAT[0]/U4_TXD/CAN_TD1, 118 P0[21]/U1_RI/SD_PWR/U4_OE/CAN_RD1, 120 P0[20]/U1_DTR/SD_CMD/I2C1_SCL, 122 P0[19]/U1_DSR/SD_CLK/I2C1_SDA, 124 P0[18]/U1_DCD/SSP0_MOSI, 126 P0[17]/U1_CTS/SSP0_MISO, 128 P0[15]/U1_TXD/SSP0_SCK, 130 P0[16]/U1_RXD/SSP0_SSEL, 158 P0[9]/I2S_TX_SDA/SSP1_MOSI/T2_MAT3/LCD_VD[17], 160 P0[8]/I2S_TX_WS/SSP1_MISO/T2_MAT2/LCD_VD[16], 162 P0[7]/I2S_TX_SCK/SSP1_SCK/T2_MAT1/LCD_VD[9], 164 P0[6]/I2S_RX_SDA/SSP1_SSEL/T2_MAT0/U1_RTS/LCD_VD[8], 166 P0[5]/I2S_RX_WS/CAN_TD_2/T2_CAP1/LCD_VD[1], 168 P0[4]/I2S_RX_SCK/CAN_RD_2/T2_CAP0/LCD_VD[0], 202 P0[2]/U0_TXD/U3_TXD, 204 P0[3]/U0_RXD/U3_RXD
part C pins: 40 P1[31]/USB_OVRCR2/SSP1_SCK/ADC0_IN[5]/I2C0_SCL, 42 P1[30]/USB_PWRD2/USB_VBUS/ADC0_IN[4]/I2C0_SDA/U3_OE, 66 P1[18]/USB_UP_LED1/PWM1_1/T1_CAP0/SSP1_MISO, 68 P1[19]/!USB_TX_E1!/!USB_PPWR1!/T1_CAP1/MC_0A/SSP1_SCK/U2_OE, 70 P1[20]/USB_TX_DP1/PWM1_2/QEI_PHA/MC_FB0/SSP0_SCK/LCD_VD[6]/LCD_VD[10], 72 P1[21]/USB_TX_DM1/PWM1_3/SSP0_SSEL/!MC_ABORT!/LCD_VD[7]/LCD_VD[11], 74 P1[22]/USB_RCV1/USB_PWRD1/T1_MAT0/MC_0B/SSP1_MOSI/LCD_VD[8]/LCD_VD[12], 76 P1[23]/USB_RX_DP1/PWM1_4/QEI_PHB/MC_FB1/SSP0_MISO/LCD_VD[9]/LCD_VD[13], 78 P1[24]/USB_RX_DM1/PWM1_5/QEI_IDX/MC_FB2/SSP0_MOSI/LCD_VD[10]/LCD_VD[14], 80 P1[25]/!USB_LS1!/!USB_HSTEN1!/T1_MAT1/MC_1A/CLKOUT/LCD_VD[11]/LCD_VD[15], 82 P1[26]/!USB_SSPND1!/PWM1_6/T0_CAP0/MC_1B/SSP1_SSEL/LCD_VD[12]/LCD_VD[20], 88 P1[27]/!USB_INT1!/!USB_OVRCR1!/T0_CAP1/CLKOUT/LCD_VD[13]/LCD_VD[21], 90 P1[28]/USB_SCL1/PWM1_CAP0/T0_MAT0/MC_2A/SSP0_SSEL/LCD_VD[14]/LCD_VD[22], 92 P1[29]/USB_SDA1/PWM1_CAP1/T0_MAT1/MC_2B/U4_TXD/LCD_VD[15]/LCD_VD[23], 147 P1[13]/ENET_RX_DV, 153 P1[7]/ENET_COL/SD_DAT[1]/PWM0_5, 156 P1[5]/ENET_TX_ER/SD_PWR/PWM0_3, 157 P1[12]/ENET_RXD3/SD_DAT[3]/PWM0_CAP0, 163 P1[11]/ENET_RXD2/SD_DAT[2]/PWM0_6, 171 P1[6]/ENET_TX_CLK/SD_DAT[0]/PWM0_4, 177 P1[3]/ENET_TXD3/SD_CMD/PWM0_2, 178 P1[17]/ENET_MDIO/I2S_RX_MCLK, 180 P1[16]/ENET_MDC/I2S_TX_MCLK, 182 P1[15]/ENET_RX_CLK/I2C2_SDA, 184 P1[14]/ENET_RX_ER/T2_CAP0, 185 P1[2]/ENET_TXD2/SD_CLK/PWM0_1, 186 P1[10]/ENET_RXD1/T3_CAP0, 188 P1[9]/ENET_RXD0/T3_MAT0, 190 P1[8]/ENET_CRS/T3_MAT1/SSP2_SSEL, 192 P1[4]/ENET_TX_EN/T3_MAT2/SSP2_MISO, 194 P1[1]/ENET_TXD1/T3_MAT3/SSP2_MOSI, 196 P1[0]/ENET_TXD0/T3_CAP1/SSP2_SCK
part D pins: 31 P2[30]/EMC_DQM2/I2C2_SDA/T3_MAT2, 39 P2[31]/EMC_DQM3/I2C2_SCL/T3_MAT3, 43 P2[29]/EMC_DQM1, 47 P2[27]/EMC_CKE3/SSP0_MOSI/T3_MAT1, 49 P2[28]/EMC_DQM0, 53 P2[24]/EMC_CKE0, 54 P2[25]/EMC_CKE1, 57 P2[26]/EMC_CKE2/SSP0_MISO/T3_MAT0, 59 P2[18]/EMC_CLK[0], 64 P2[23]/!EMC_DYCS3!/SSP0_SSEL/T3_CAP1, 67 P2[19]/EMC_CLK[1], 73 P2[20]/!EMC_DYCS0!, 81 P2[21]/!EMC_DYCS1!, 85 P2[22]/!EMC_DYCS2!/SSP0_SCK/T3_CAP0, 87 P2[16]/!EMC_CAS!, 91 P2[14]/!EMC_CS2!/I2C1_SDA/T2_CAP0, 95 P2[17]/!EMC_RAS!, 99 P2[15/!EMC_CS3!/I2C1_SCL/T2_CAP1, 102 P2[13]/EINT3/SD_DAT[3]/I2S_TX_SDA/LCD_VD[5]/LCD_VD[9]/LCD_VD[19], 106 P2[12]/EINT2/SD_DAT[2]/I2S_TX_WS/LCD_VD[4]/LCD_VD[3]/LCD_VD[8]/LCD_VD[18], 108 P2[11]/EINT1/SD_DAT[1]/I2S_TX_SCK/LCD_CLKIN, 110 P2[10]/EINT_0/NMI, 132 P2[9]/USB_CONNECT1/U2_RXD/U4_RXD/ENET_MDIO/LCD_VD[3]/LCD_VD[7], 134 P2[8]/CAN_TD2/U2_TXD/U1_CTS/ENET_MDC/LCD_VD[2]/LCD_VD[6], 136 P2[7]/CAN_RD2/U1_RTS/LCD_VD[1]/LCD_VD[5], 138 P2[6]/PWM1_CAP0/U1_RI/T2_CAP0/U2_OE/TRACECLK/LCD_VD[0]/LCD_VD[4], 140 P2[5]/PWM1[6]/U1_DTR/T2_MAT0/TRACEDATA[0]/LCD_LP, 142 P2[4]/PWM1[5]/U1_DSR/T2_MAT1/TRACEDATA[1]/LCD_ENAB_M, 144 P2[3]/PWM1[4]/U1_DCD/T2_MAT2/TRACEDATA[2]/LCD_FP, 150 P2[2]/PWM1[3]/U1_CTS/T2_MAT3/TRACEDATA[3]/LCD_DCLK, 152 P2[1]/PWM1[2]/U1_RXD/LCD_LE, 154 P2[0]/PWM1[1]/U1_TXD/LCD_PWR
part E pins: 1 P3[12]/EMC_D[12], 3 P3[3]/EMC_D[3], 5 P3[28]/EMC_D[28]/PWM1[5]/T1_CAP1, 7 P3[13]/EMC_D[13], 11 P3[29]/EMC_D[29]/PWM1[6]/T1_MAT0, 13 P3[4]/EMC_D[4], 17 P3[5]/EMC_D[5], 19 P3[30]/EMC_D[30]/U1_RTS/T1_MAT1, 21 P3[14]/EMC_D[14], 23 P3[6]/EMC_D[6], 25 P3[31]/EMC_D[31]/T1_MAT2, 27 P3[7]/EMC_D[7], 28 P3[15]/EMC_D[15], 55 P3[26]/EMC_D[26]/PWM1[3]/T0_MAT1/STCLK, 56 P3[25]/EMC_D[25]/PWM1[2]/T0_MAT0, 58 P3[24]/EMC_D[24]/PWM1[1]/T0_CAP1, 65 P3[23]/EMC_D[23]/PWM1_CAP0/T0_CAP0, 137 P3[16]/EMC_D[16]/PWM0_1/U1_TXD, 143 P3[17]/EMC_D[17]/PWM0_2/U1_RXD, 151 P3[18]/EMC_D[18]/PWM0_3/U1_CTS, 161 P3[19]/EMC_D[19]/PWM0_4/U1_DCD, 167 P3[20]/EMC_D[20]/PWM0_5/U1_DSR, 175 P3[21]/EMC_D[21]/PWM0_6/U1_DTR, 191 P3[8]/EMC_D[8], 195 P3[22]/EMC_D[22]/PWM0_CAP0/U1_RI, 197 P3[0]/EMC_D[0], 199 P3[9]/EMC_D[9], 201 P3[1]/EMC_D[1], 203 P3[27]/EMC_D[27]/PWM1[4]/T1_CAP0, 205 P3[10]/EMC_D[10], 207 P3[2]/EMC_D[2], 208 P3[11]/EMC_D[11]
part F pins: 75 P4[0]/EMC_A[0], 79 P4[1]/EMC_A[1], 83 P4[2]/EMC_A[2], 97 P4[3]/EMC_A[3], 101 P4[16]/EMC_A[16], 103 P4[4]/EMC_A[4], 104 P4[17]/EMC_A[17], 105 P4[18]/EMC_A[18], 107 P4[5]/EMC_A[5], 109 P4[20]/EMC_A[20]/I2C2_SDA/SSP1_SCK, 111 P4[19]/EMC_A[19], 113 P4[6]/EMC_A[6], 115 P4[21]/EMC_A[21]/I2C2_SCL/SSP1_SSEL, 119 P4[26]/!EMC_BLS0!, 121 P4[7]/EMC_A[7], 123 P4[22]/EMC_A[22]/U2_TXD/SSP1_MISO, 127 P4[8]/EMC_A[8], 129 P4[23]/EMC_A[23]/U2_RXD/SSP1_MOSI, 131 P4[9]/EMC_A[9], 135 P4[10]/EMC_A[10], 139 P4[27]/!EMC_BLS1!, 145 P4[11]/EMC_A[11], 149 P4[12]/EMC_A[12], 155 P4[13]/EMC_A[13], 159 P4[14]/EMC_A[14], 170 P4[28]/!EMC_BLS2!/U3_TXD/T2_MAT0/LCD_VD[6]/LCD_VD[10]/LCD_VD[2], 173 P4[15]/EMC_A[15], 176 P4[29]/!EMC_BLS3!/U3_RXD/T2_MAT1/I2C2_SCL/LCD_VD[7]/LCD_VD[11]/LCD_VD[3], 179 P4[25]/!EMC_WE!, 183 P4[24]/!EMC_OE!, 187 P4[30]/!EMC_CS0!, 193 P4[31]/!EMC_CS1!
part G pins: 9 P5[0]/EMC_A[24]/T2_MAT2, 30 P5[1]/EMC_A[25]/T2_MAT3, 117 P5[2]/T3_MAT2/I2C0_SDA, 141 P5[3]/U4_RXD/I2C0_SCL, 206 P5[4]/U0_OE/T3_MAT3/U4_TXD

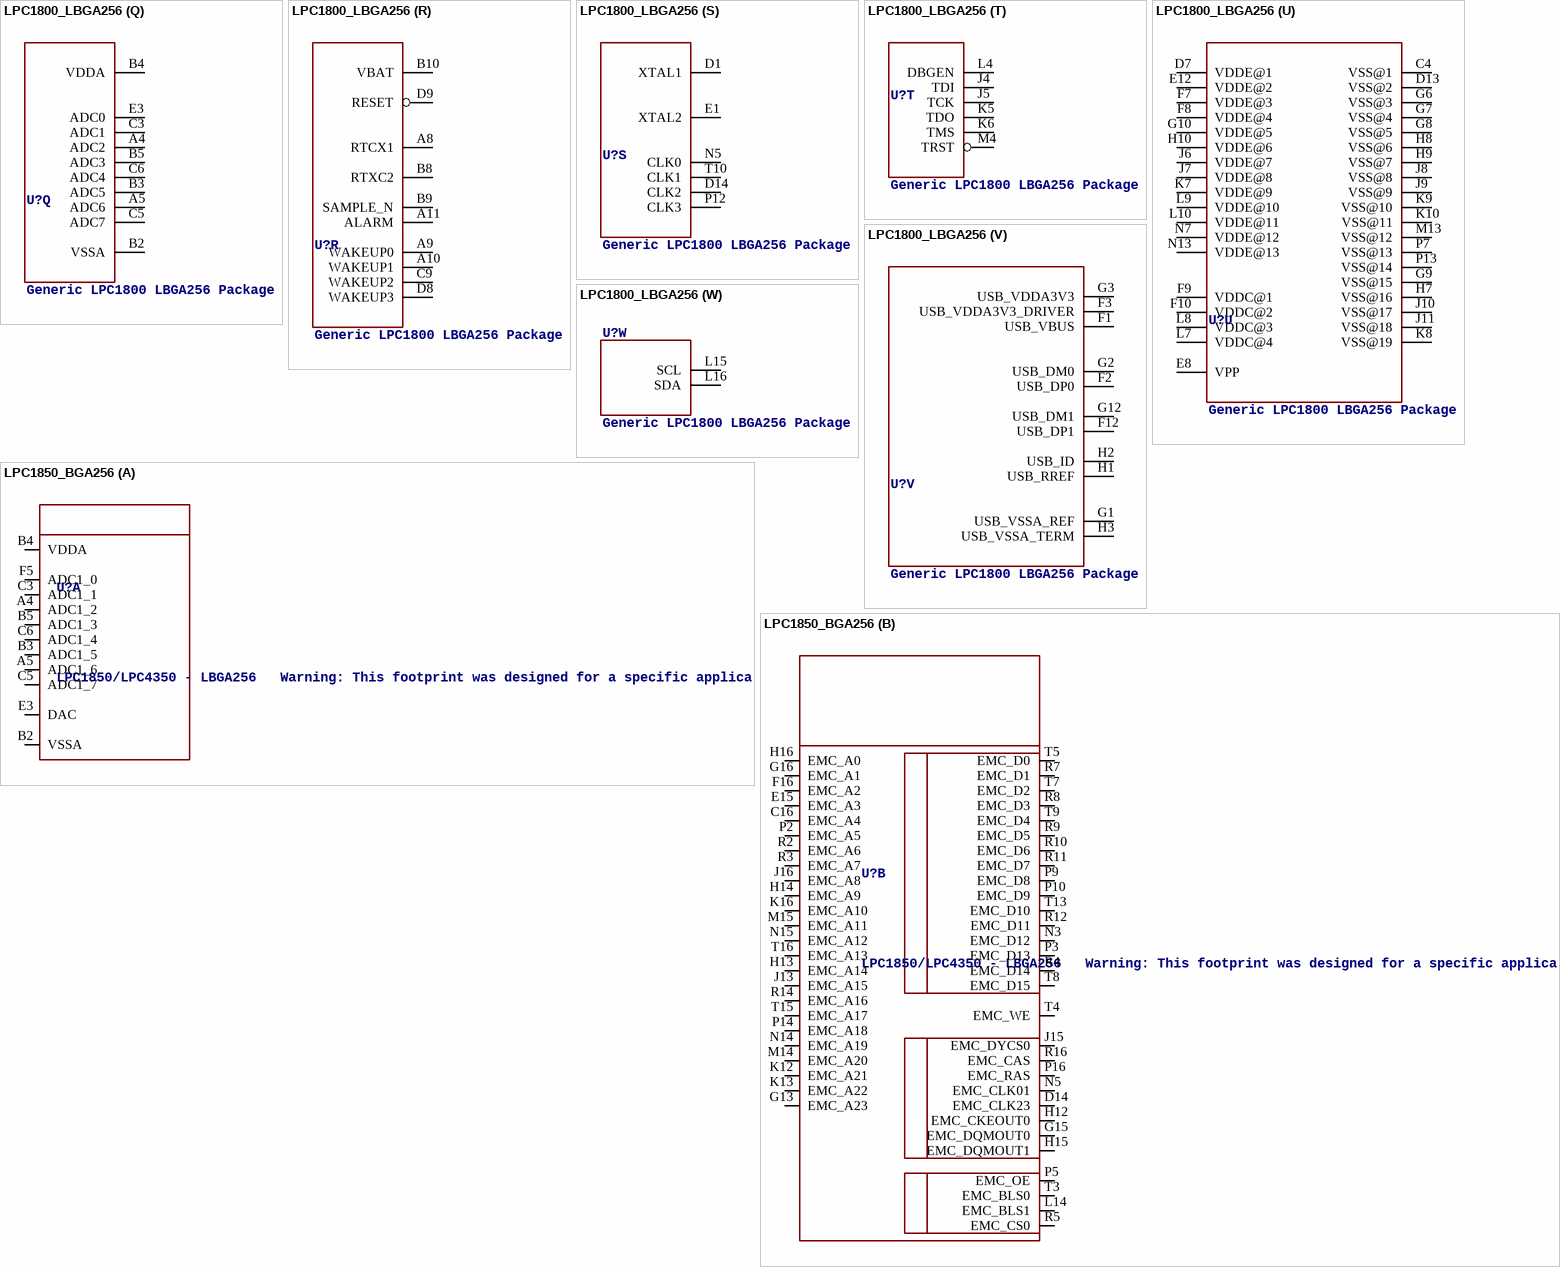
[diagram p36: symbols LPC1800_LBGA256 to LPC1850_BGA256]

## LPC1800_LBGA256
designator U?, comment Generic LPC1800 LBGA256 Package
footprint LBGA256_1.0MM
part A pins: L3 PORT0_0, M2 PORT0_1
part B pins: M7 PORT1_16, M8 PORT1_17, M10 PORT1_20, M11 PORT1_19, N12 PORT1_18, P2 PORT1_0, P5 PORT1_3, R2 PORT1_1, R3 PORT1_2, R5 PORT1_5, R7 PORT1_8, R8 PORT1_10, R9 PORT1_12, R10 PORT1_13, R11 PORT1_14, T3 PORT1_4, T4 PORT1_6, T5 PORT1_7, T7 PORT1_9, T9 PORT1_11, T12 PORT1_15
part C pins: C16 PORT2_13, E15 PORT2_12, F16 PORT2_11, G16 PORT2_10, H14 PORT2_7, H16 PORT2_9, J12 PORT2_3, J16 PORT2_8, K11 PORT2_4, K14 PORT2_5, K16 PORT2_6, M15 PORT2_2, N15 PORT2_1, T16 PORT2_0
part D pins: A15 PORT3_4, B13 PORT3_6, B14 PORT3_3, C10 PORT3_8, C11 PORT3_7, C12 PORT3_5, F11 PORT3_2, F13 PORT3_0, G11 PORT3_1
part E pins: A1 PORT4_1, B1 PORT4_4, C1 PORT4_6, C2 PORT4_3, D2 PORT4_5, D3 PORT4_2, D5 PORT4_0, E2 PORT4_8, H4 PORT4_7, L2 PORT4_9, M3 PORT4_10
part F pins: N3 PORT5_0, P3 PORT5_1, P9 PORT5_4, P10 PORT5_5, R4 PORT5_2, R12 PORT5_7, T8 PORT5_3, T13 PORT5_6
part G pins: G15 PORT6_12, H12 PORT6_11, H13 PORT6_8, H15 PORT6_10, J13 PORT6_7, J15 PORT6_9, L13 PORT6_2, L14 PORT6_6, M12 PORT6_0, P15 PORT6_3, P16 PORT6_5, R15 PORT6_1, R16 PORT6_4
part H pins: A7 PORT7_5, A16 PORT7_2, B6 PORT7_7, B16 PORT7_0, C7 PORT7_6, C8 PORT7_4, C13 PORT7_3, C14 PORT7_1
part I pins: E5 PORT8_0, H5 PORT8_1, J1 PORT8_5, J2 PORT8_4, J3 PORT8_3, K1 PORT8_7, K3 PORT8_6, K4 PORT8_2, L1 PORT8_8 (oe)
part J pins: L11 PORT9_6, M6 PORT9_3, M9 PORT9_5, N6 PORT9_1, N8 PORT9_2, N10 PORT9_4, T1 PORT9_0
part K pins: G13 PORTA_4, H11 PORTA_3, J14 PORTA_1, K15 PORTA_2, L12 PORTA_0
part L pins: A6 PORTB_6, A12 PORTB_5, A13 PORTB_3, A14 PORTB_1, B11 PORTB_4, B12 PORTB_2, B15 PORTB_0
part M pins: D4 PORTC_0, E4 PORTC_1, F4 PORTC_4, F5 PORTC_3, F6 PORTC_2, G4 PORTC_5, G5 PORTC_7, H6 PORTC_6, K2 PORTC_9, L5 PORTC_11, L6 PORTC_12, M1 PORTC_13, M5 PORTC_10, N1 PORTC_14, N4 PORTC_8
part N pins: N2 PORTD_0, N9 PORTD_11, N11 PORTD_12, P1 PORTD_1, P4 PORTD_3, P6 PORTD_5, P8 PORTD_8, P11 PORTD_10, R1 PORTD_2, R6 PORTD_6, R13 PORTD_14, R14 PORTD_16, T2 PORTD_4, T6 PORTD_7, T11 PORTD_9, T14 PORTD_13, T15 PORTD_15
part O pins: C15 PORTE_14, D15 PORTE_12, D16 PORTE_11, E13 PORTE_15, E14 PORTE_10, E16 PORTE_9, F14 PORTE_8, F15 PORTE_7, G14 PORTE_13, K12 PORTE_3, K13 PORTE_4, M14 PORTE_2, M16 PORTE_6, N14 PORTE_1, N16 PORTE_5, P14 PORTE_0
part P pins: A2 PORTF_11, A3 PORTF_10, B7 PORTF_7, D6 PORTF_9, D10 PORTF_4, D11 PORTF_2, D12 PORTF_0, E6 PORTF_8, E7 PORTF_6, E9 PORTF_5, E10 PORTF_3, E11 PORTF_1
part Q pins: A4 ADC2, A5 ADC6, B2 VSSA (oe), B3 ADC5, B4 VDDA (oe), B5 ADC3, C3 ADC1, C5 ADC7, C6 ADC4, E3 ADC0
part R pins: A8 RTCX1, A9 WAKEUP0, A10 WAKEUP1, A11 ALARM, B8 RTXC2, B9 SAMPLE_N, B10 VBAT, C9 WAKEUP2, D8 WAKEUP3, D9 RESET
part S pins: D1 XTAL1, D14 CLK2, E1 XTAL2, N5 CLK0, P12 CLK3, T10 CLK1
part T pins: J4 TDI, J5 TCK, K5 TDO, K6 TMS, L4 DBGEN, M4 TRST
part U pins: C4 VSS@1 (oe), D7 VDDE@1 (oe), D13 VSS@2 (oe), E8 VPP (oe), E12 VDDE@2 (oe), F7 VDDE@3 (oe), F8 VDDE@4 (oe), F9 VDDC@1 (oe), F10 VDDC@2 (oe), G6 VSS@3 (oe), G7 VSS@4 (oe), G8 VSS@5 (oe), G9 VSS@15 (oe), G10 VDDE@5 (oe), H7 VSS@16 (oe), H8 VSS@6 (oe), H9 VSS@7 (oe), H10 VDDE@6 (oe), J6 VDDE@7 (oe), J7 VDDE@8 (oe), J8 VSS@8 (oe), J9 VSS@9 (oe), J10 VSS@17 (oe), J11 VSS@18 (oe), K7 VDDE@9 (oe), K8 VSS@19 (oe), K9 VSS@10 (oe), K10 VSS@11 (oe), L7 VDDC@4 (oe), L8 VDDC@3 (oe), L9 VDDE@10 (oe), L10 VDDE@11 (oe), M13 VSS@12 (oe), N7 VDDE@12 (oe), N13 VDDE@13 (oe), P7 VSS@13 (oe), P13 VSS@14 (oe)
part V pins: F1 USB_VBUS, F2 USB_DP0, F3 USB_VDDA3V3_DRIVER, F12 USB_DP1, G1 USB_VSSA_REF, G2 USB_DM0, G3 USB_VDDA3V3, G12 USB_DM1, H1 USB_RREF, H2 USB_ID, H3 USB_VSSA_TERM
part W pins: L15 SCL (oe), L16 SDA (oe)

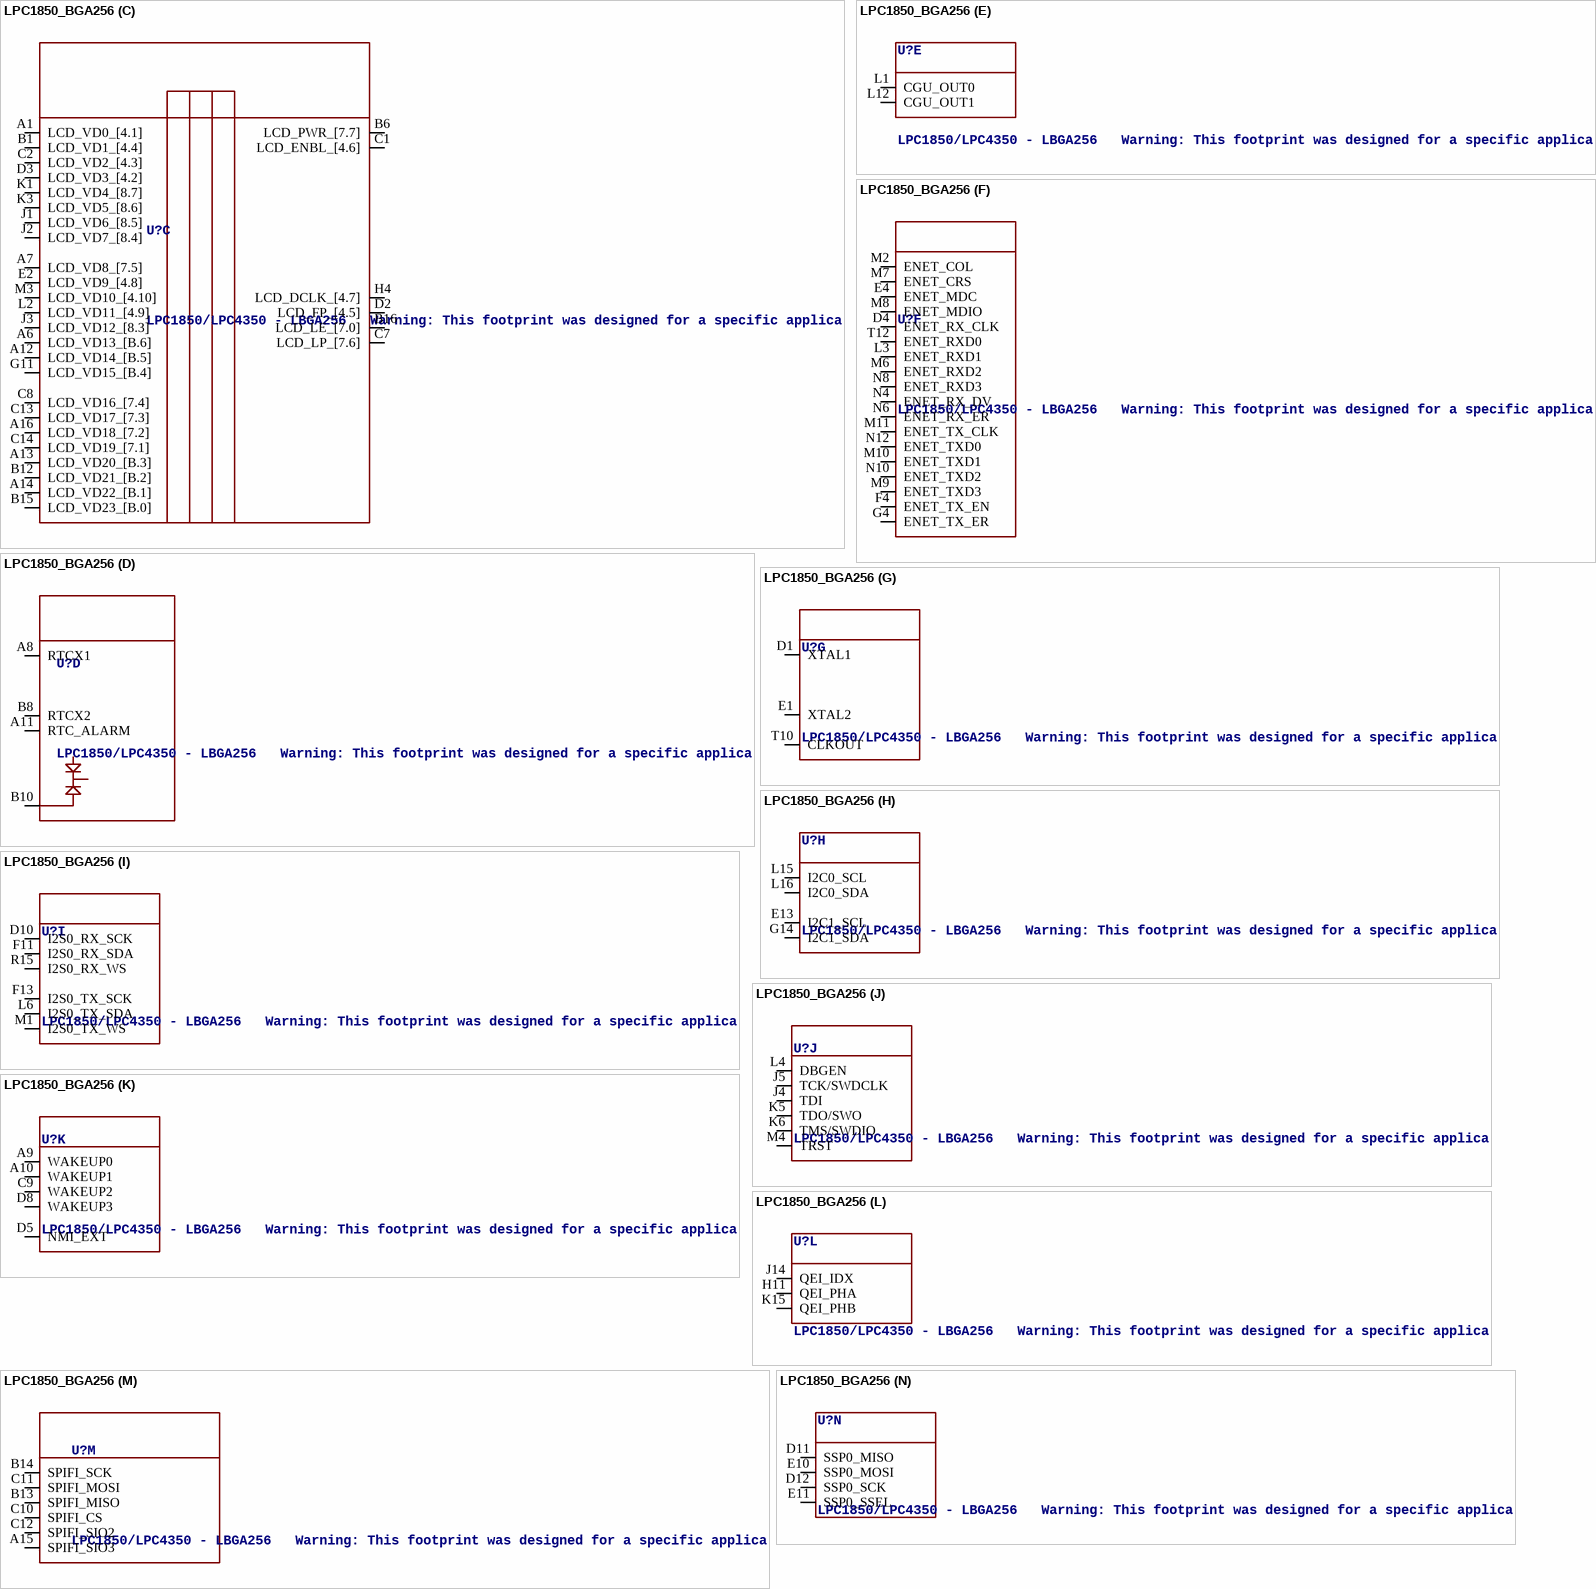
[diagram p37: symbol LPC1850_BGA256]

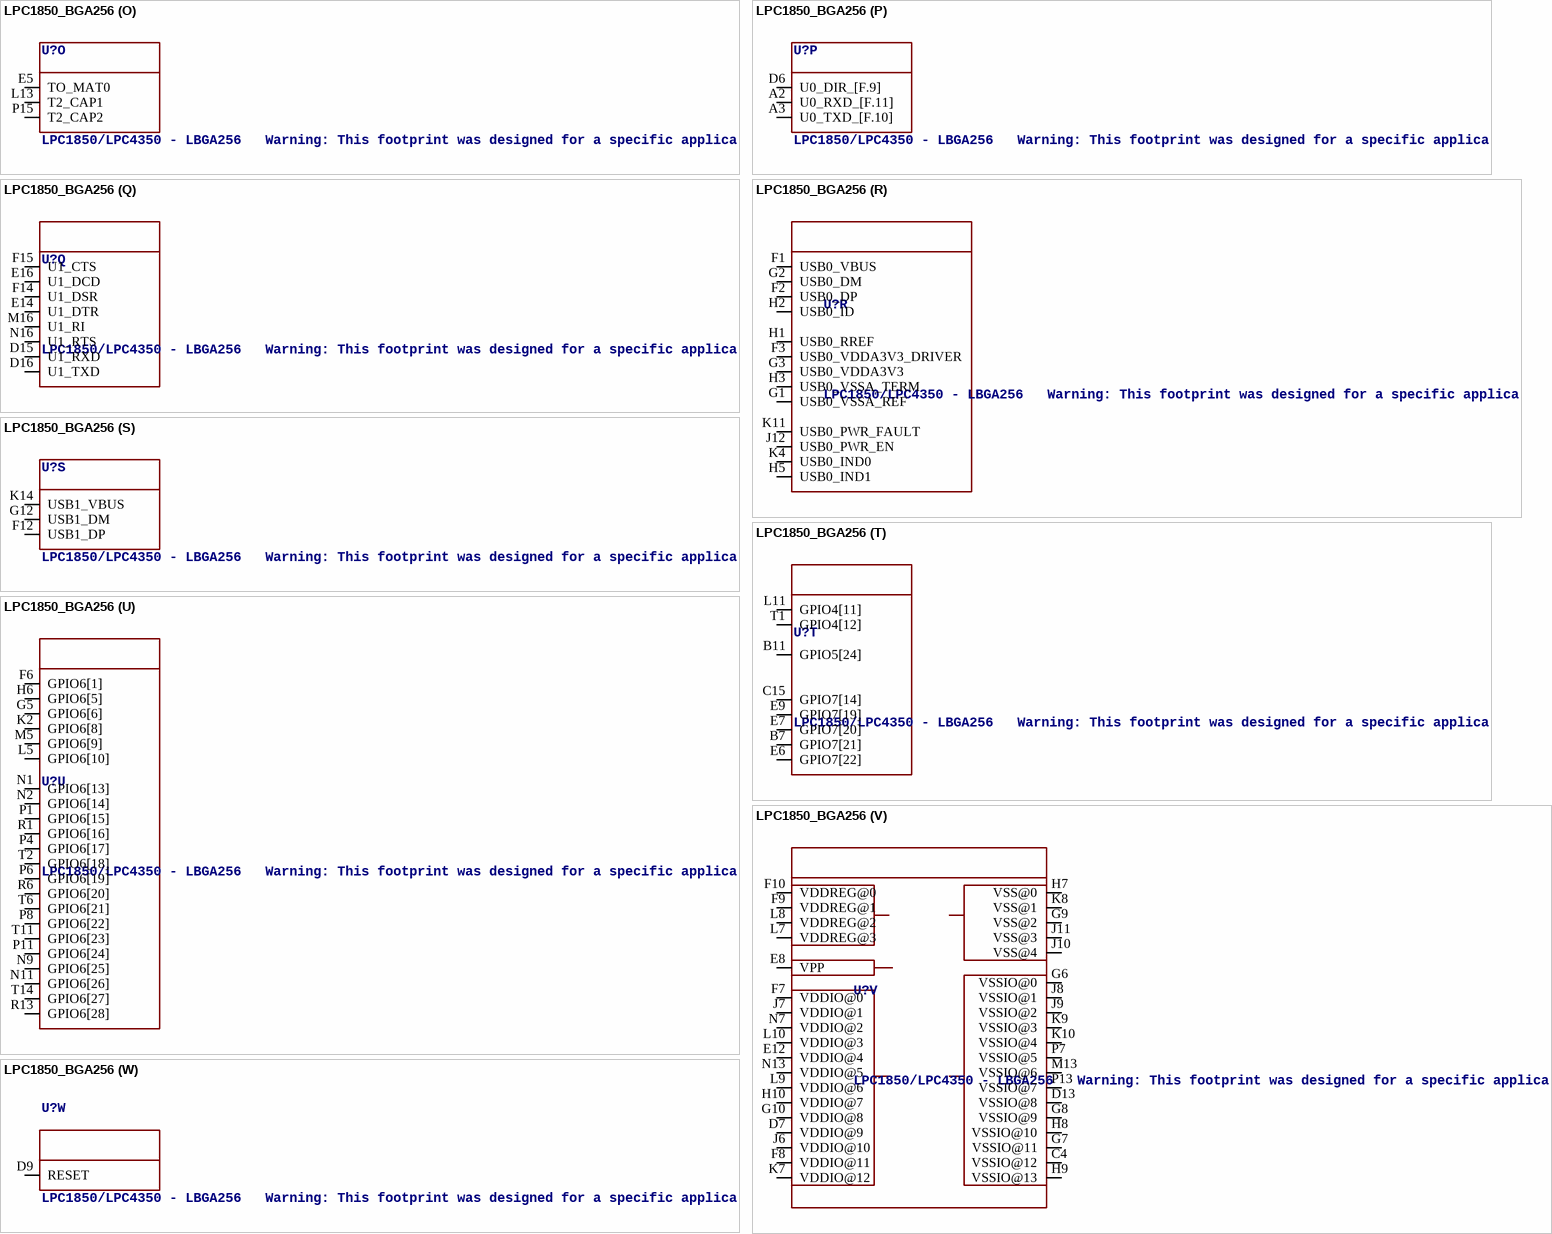
[diagram p38: symbol LPC1850_BGA256]